# Altium schematic symbol library Rockchip.SchLib: 6 symbols
Pins are listed as number, name and electrical type; pins without a type are passive.

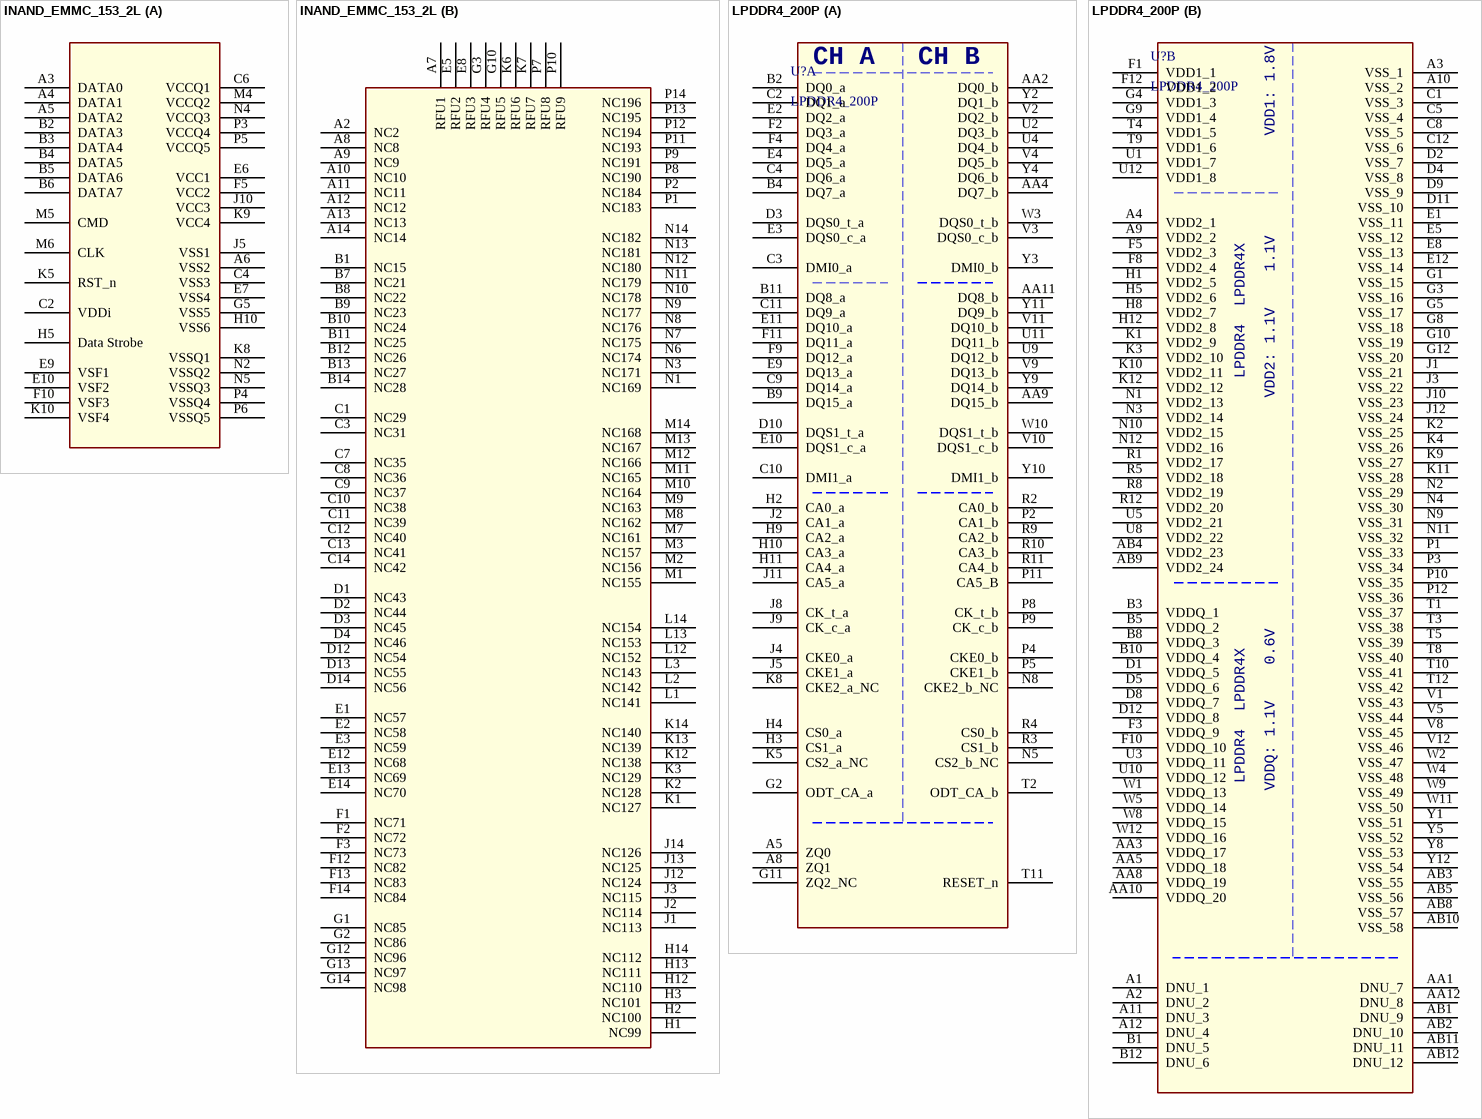
[diagram p0: symbols INAND_EMMC_153_2L to LPDDR4_200P]

## INAND_EMMC_153_2L
designator U?
part A pins: A3 DATA0, A4 DATA1, A5 DATA2, A6 VSS2, B2 DATA3, B3 DATA4, B4 DATA5, B5 DATA6, B6 DATA7, C2 VDDi, C4 VSS3, C6 VCCQ1, E6 VCC1, E7 VSS4, E9 VSF1, E10 VSF2, F5 VCC2, F10 VSF3, G5 VSS5, H5 Data Strobe, H10 VSS6, J5 VSS1, J10 VCC3, K5 RST_n, K8 VSSQ1, K9 VCC4, K10 VSF4, M4 VCCQ2, M5 CMD, M6 CLK, N2 VSSQ2, N4 VCCQ3, N5 VSSQ3, P3 VCCQ4, P4 VSSQ4, P5 VCCQ5, P6 VSSQ5
part B pins: A2 NC2, A7 RFU1, A8 NC8, A9 NC9, A10 NC10, A11 NC11, A12 NC12, A13 NC13, A14 NC14, B1 NC15, B7 NC21, B8 NC22, B9 NC23, B10 NC24, B11 NC25, B12 NC26, B13 NC27, B14 NC28, C1 NC29, C3 NC31, C7 NC35, C8 NC36, C9 NC37, C10 NC38, C11 NC39, C12 NC40, C13 NC41, C14 NC42, D1 NC43, D2 NC44, D3 NC45, D4 NC46, D12 NC54, D13 NC55, D14 NC56, E1 NC57, E2 NC58, E3 NC59, E5 RFU2, E8 RFU3, E12 NC68, E13 NC69, E14 NC70, F1 NC71, F2 NC72, F3 NC73, F12 NC82, F13 NC83, F14 NC84, G1 NC85, G2 NC86, G3 RFU4, G10 RFU5, G12 NC96, G13 NC97, G14 NC98, H1 NC99, H2 NC100, H3 NC101, H12 NC110, H13 NC111, H14 NC112, J1 NC113, J2 NC114, J3 NC115, J12 NC124, J13 NC125, J14 NC126, K1 NC127, K2 NC128, K3 NC129, K6 RFU6, K7 RFU7, K12 NC138, K13 NC139, K14 NC140, L1 NC141, L2 NC142, L3 NC143, L12 NC152, L13 NC153, L14 NC154, M1 NC155, M2 NC156, M3 NC157, M7 NC161, M8 NC162, M9 NC163, M10 NC164, M11 NC165, M12 NC166, M13 NC167, M14 NC168, N1 NC169, N3 NC171, N6 NC174, N7 NC175, N8 NC176, N9 NC177, N10 NC178, N11 NC179, N12 NC180, N13 NC181, N14 NC182, P1 NC183, P2 NC184, P7 RFU8, P8 NC190, P9 NC191, P10 RFU9, P11 NC193, P12 NC194, P13 NC195, P14 NC196

## LPDDR4_200P
designator U?
footprint VFBGA-200_L14.5-W10.0-BL_MT53D1024M32D4DT
part A pins: A5 ZQ0, A8 ZQ1, AA2 DQ0_b, AA4 DQ7_b, AA9 DQ15_b, AA11 DQ8_b, B2 DQ0_a, B4 DQ7_a, B9 DQ15_a, B11 DQ8_a, C2 DQ1_a, C3 DMI0_a, C4 DQ6_a, C9 DQ14_a, C10 DMI1_a, C11 DQ9_a, D3 DQS0_t_a, D10 DQS1_t_a, E2 DQ2_a, E3 DQS0_c_a, E4 DQ5_a, E9 DQ13_a, E10 DQS1_c_a, E11 DQ10_a, F2 DQ3_a, F4 DQ4_a, F9 DQ12_a, F11 DQ11_a, G2 ODT_CA_a, G11 ZQ2_NC, H2 CA0_a, H3 CS1_a, H4 CS0_a, H9 CA2_a, H10 CA3_a, H11 CA4_a, J2 CA1_a, J4 CKE0_a, J5 CKE1_a, J8 CK_t_a, J9 CK_c_a, J11 CA5_a, K5 CS2_a_NC, K8 CKE2_a_NC, N5 CS2_b_NC, N8 CKE2_b_NC, P2 CA1_b, P4 CKE0_b, P5 CKE1_b, P8 CK_t_b, P9 CK_c_b, P11 CA5_B, R2 CA0_b, R3 CS1_b, R4 CS0_b, R9 CA2_b, R10 CA3_b, R11 CA4_b, T2 ODT_CA_b, T11 RESET_n, U2 DQ3_b, U4 DQ4_b, U9 DQ12_b, U11 DQ11_b, V2 DQ2_b, V3 DQS0_c_b, V4 DQ5_b, V9 DQ13_b, V10 DQS1_c_b, V11 DQ10_b, W3 DQS0_t_b, W10 DQS1_t_b, Y2 DQ1_b, Y3 DMI0_b, Y4 DQ6_b, Y9 DQ14_b, Y10 DMI1_b, Y11 DQ9_b
part B pins: A1 DNU_1, A2 DNU_2, A3 VSS_1 (power), A4 VDD2_1 (power), A9 VDD2_2 (power), A10 VSS_2 (power), A11 DNU_3, A12 DNU_4, AA1 DNU_7, AA3 VDDQ_17 (power), AA5 VDDQ_18 (power), AA8 VDDQ_19 (power), AA10 VDDQ_20 (power), AA12 DNU_8, AB1 DNU_9, AB2 DNU_10, AB3 VSS_55 (power), AB4 VDD2_23 (power), AB5 VSS_56 (power), AB8 VSS_57 (power), AB9 VDD2_24 (power), AB10 VSS_58 (power), AB11 DNU_11, AB12 DNU_12, B1 DNU_5, B3 VDDQ_1 (power), B5 VDDQ_2 (power), B8 VDDQ_3 (power), B10 VDDQ_4 (power), B12 DNU_6, C1 VSS_3 (power), C5 VSS_4 (power), C8 VSS_5 (power), C12 VSS_6 (power), D1 VDDQ_5 (power), D2 VSS_7 (power), D4 VSS_8 (power), D5 VDDQ_6 (power), D8 VDDQ_7 (power), D9 VSS_9 (power), D11 VSS_10 (power), D12 VDDQ_8 (power), E1 VSS_11 (power), E5 VSS_12 (power), E8 VSS_13 (power), E12 VSS_14 (power), F1 VDD1_1 (power), F3 VDDQ_9 (power), F5 VDD2_3 (power), F8 VDD2_4 (power), F10 VDDQ_10 (power), F12 VDD1_2 (power), G1 VSS_15 (power), G3 VSS_16 (power), G4 VDD1_3 (power), G5 VSS_17 (power), G8 VSS_18 (power), G9 VDD1_4 (power), G10 VSS_19 (power), G12 VSS_20 (power), H1 VDD2_5 (power), H5 VDD2_6 (power), H8 VDD2_7 (power), H12 VDD2_8 (power), J1 VSS_21 (power), J3 VSS_22 (power), J10 VSS_23 (power), J12 VSS_24 (power), K1 VDD2_9 (power), K2 VSS_25 (power), K3 VDD2_10 (power), K4 VSS_26 (power), K9 VSS_27 (power), K10 VDD2_11 (power), K11 VSS_28 (power), K12 VDD2_12 (power), N1 VDD2_13 (power), N2 VSS_29 (power), N3 VDD2_14 (power), N4 VSS_30 (power), N9 VSS_31 (power), N10 VDD2_15 (power), N11 VSS_32 (power), N12 VDD2_16 (power), P1 VSS_33 (power), P3 VSS_34 (power), P10 VSS_35 (power), P12 VSS_36 (power), R1 VDD2_17 (power), R5 VDD2_18 (power), R8 VDD2_19 (power), R12 VDD2_20 (power), T1 VSS_37 (power), T3 VSS_38 (power), T4 VDD1_5 (power), T5 VSS_39 (power), T8 VSS_40 (power), T9 VDD1_6 (power), T10 VSS_41 (power), T12 VSS_42 (power), U1 VDD1_7 (power), U3 VDDQ_11 (power), U5 VDD2_21 (power), U8 VDD2_22 (power), U10 VDDQ_12 (power), U12 VDD1_8 (power), V1 VSS_43 (power), V5 VSS_44 (power), V8 VSS_45 (power), V12 VSS_46 (power), W1 VDDQ_13 (power), W2 VSS_47 (power), W4 VSS_48 (power), W5 VDDQ_14 (power), W8 VDDQ_15 (power), W9 VSS_49 (power), W11 VSS_50 (power), W12 VDDQ_16 (power), Y1 VSS_51 (power), Y5 VSS_52 (power), Y8 VSS_53 (power), Y12 VSS_54 (power)
part A text: CH A; CH B
part B text: VDD1: 1.8V; LPDDR4  LPDDR4X; VDD2: 1.1V    1.1V; VDDQ: 1.1V    0.6V

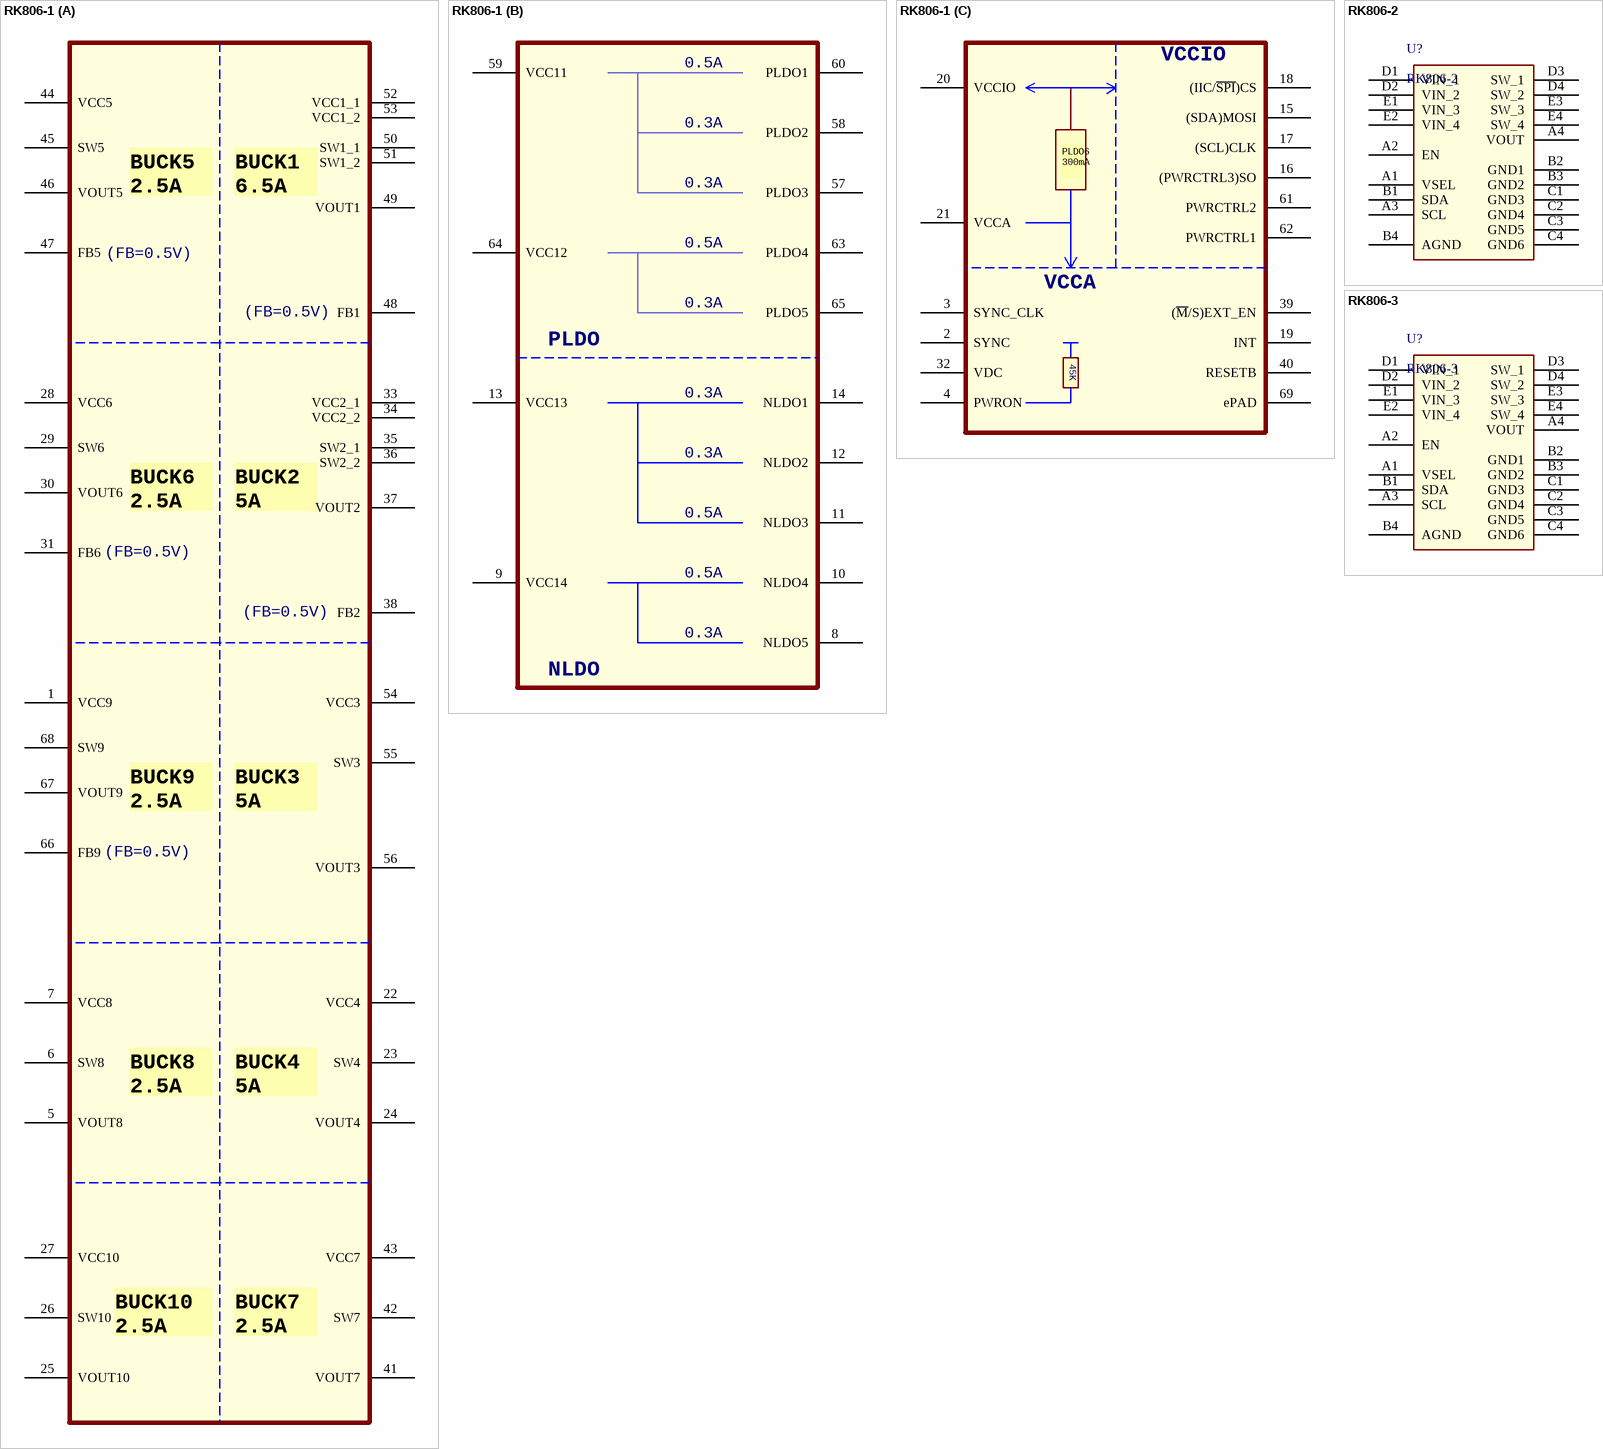
[diagram p1: symbols RK806-1 to RK806-3]

## RK806-1
designator U?  (value not drawn)
footprint QFN-68-1EP_7x7mm_P0.35mm_EP5.5x5.5mm (QFN, 68-Leads, Body 7.00x7.00mm, Pitch 0.35mm, Thermal Pad 5.5x5.5mm IPC Medium Density)
part A pins: 1 VCC9, 5 VOUT8, 6 SW8, 7 VCC8, 22 VCC4, 23 SW4, 24 VOUT4, 25 VOUT10, 26 SW10, 27 VCC10, 28 VCC6, 29 SW6, 30 VOUT6, 31 FB6, 33 VCC2_1, 34 VCC2_2, 35 SW2_1, 36 SW2_2, 37 VOUT2, 38 FB2, 41 VOUT7, 42 SW7, 43 VCC7, 44 VCC5, 45 SW5, 46 VOUT5, 47 FB5, 48 FB1, 49 VOUT1, 50 SW1_1, 51 SW1_2, 52 VCC1_1, 53 VCC1_2, 54 VCC3, 55 SW3, 56 VOUT3, 66 FB9, 67 VOUT9, 68 SW9
part B pins: 8 NLDO5, 9 VCC14, 10 NLDO4, 11 NLDO3, 12 NLDO2, 13 VCC13, 14 NLDO1, 57 PLDO3, 58 PLDO2, 59 VCC11, 60 PLDO1, 63 PLDO4, 64 VCC12, 65 PLDO5
part C pins: 2 SYNC, 3 SYNC_CLK, 4 PWRON, 15 (SDA)MOSI, 16 (PWRCTRL3)SO, 17 (SCL)CLK, 18 (IIC/~{SPI})CS, 19 INT, 20 VCCIO, 21 VCCA, 32 VDC, 39 (~{M}/S)EXT_EN, 40 RESETB, 61 PWRCTRL2, 62 PWRCTRL1, 69 ePAD
part A text: BUCK5 / 2.5A; BUCK1 / 6.5A; (FB=0.5V); BUCK6 / 2.5A; BUCK2 / 5A; BUCK9 / 2.5A; BUCK3 / 5A; BUCK8 / 2.5A; BUCK4 / 5A; BUCK10 / 2.5A; BUCK7 / 2.5A
part B text: 0.5A; 0.3A; PLDO; NLDO
part C text: PLDO6 / 300mA; 45K

## RK806-2
designator U?
footprint WLCSP-20_L2.0-W1.6-R5-C4-P0.40-TL
pins: A1 VSEL, A2 EN, A3 SCL, A4 VOUT, B1 SDA, B2 GND1, B3 GND2, B4 AGND, C1 GND3, C2 GND4, C3 GND5, C4 GND6, D1 VIN_1, D2 VIN_2, D3 SW_1, D4 SW_2, E1 VIN_3, E2 VIN_4, E3 SW_3, E4 SW_4

## RK806-3
designator U?
footprint WLCSP-20_L2.0-W1.6-R5-C4-P0.40-TL
pins: A1 VSEL, A2 EN, A3 SCL, A4 VOUT, B1 SDA, B2 GND1, B3 GND2, B4 AGND, C1 GND3, C2 GND4, C3 GND5, C4 GND6, D1 VIN_1, D2 VIN_2, D3 SW_1, D4 SW_2, E1 VIN_3, E2 VIN_4, E3 SW_3, E4 SW_4

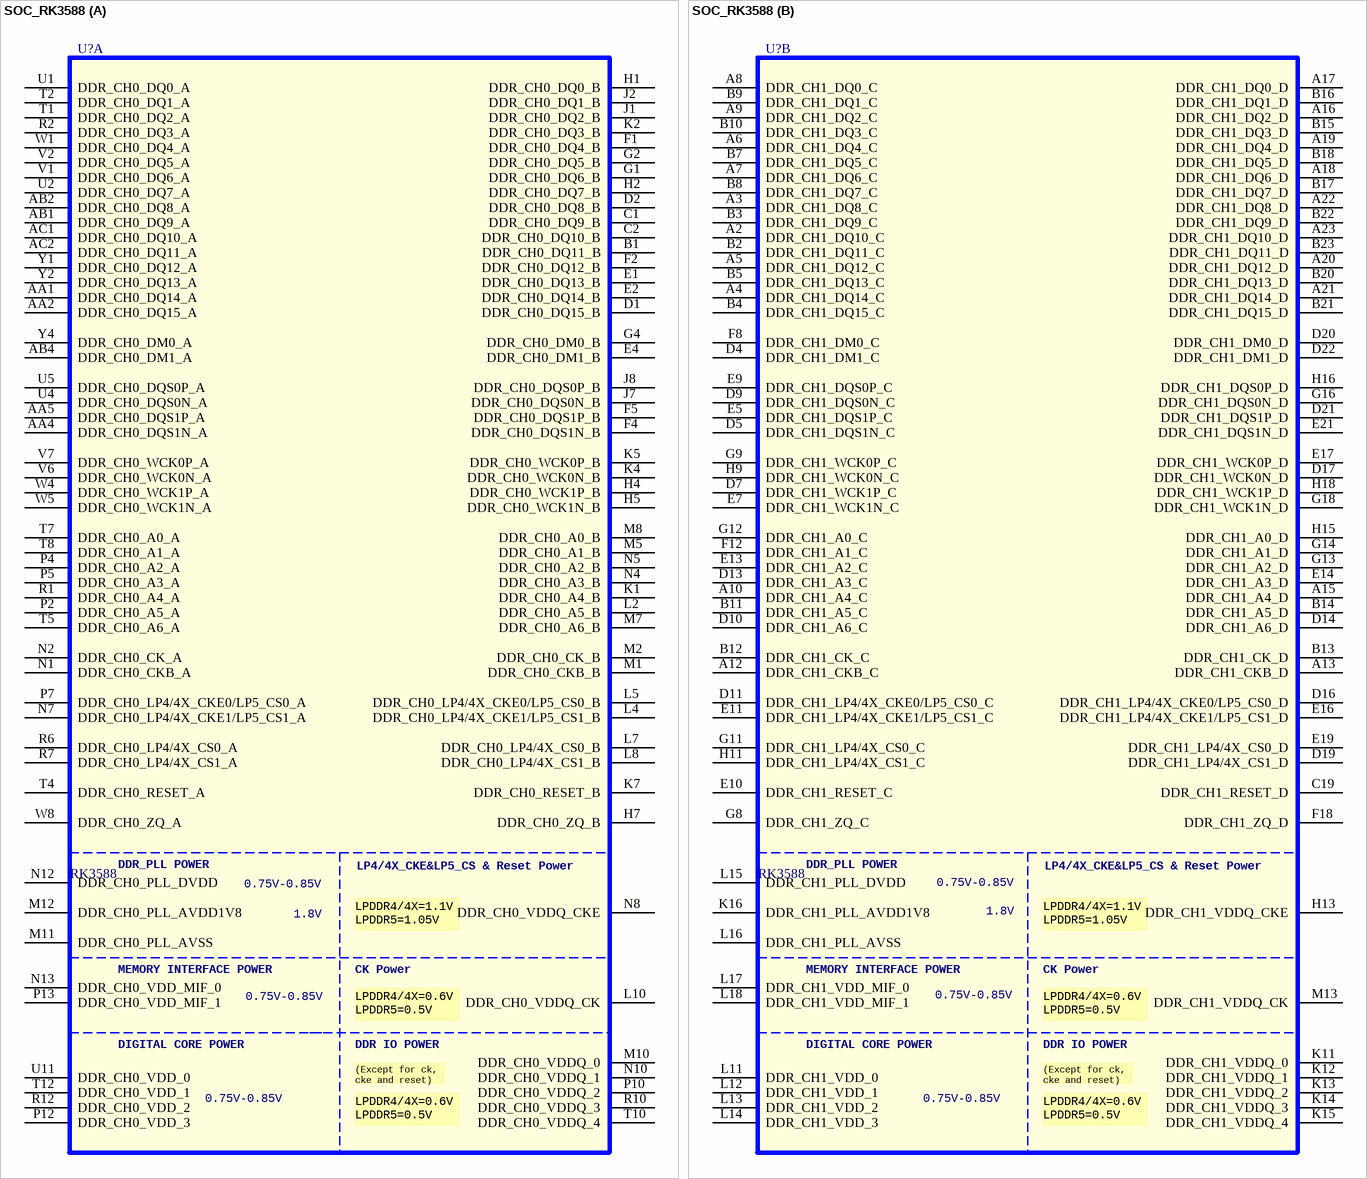
[diagram p2: symbol SOC_RK3588]

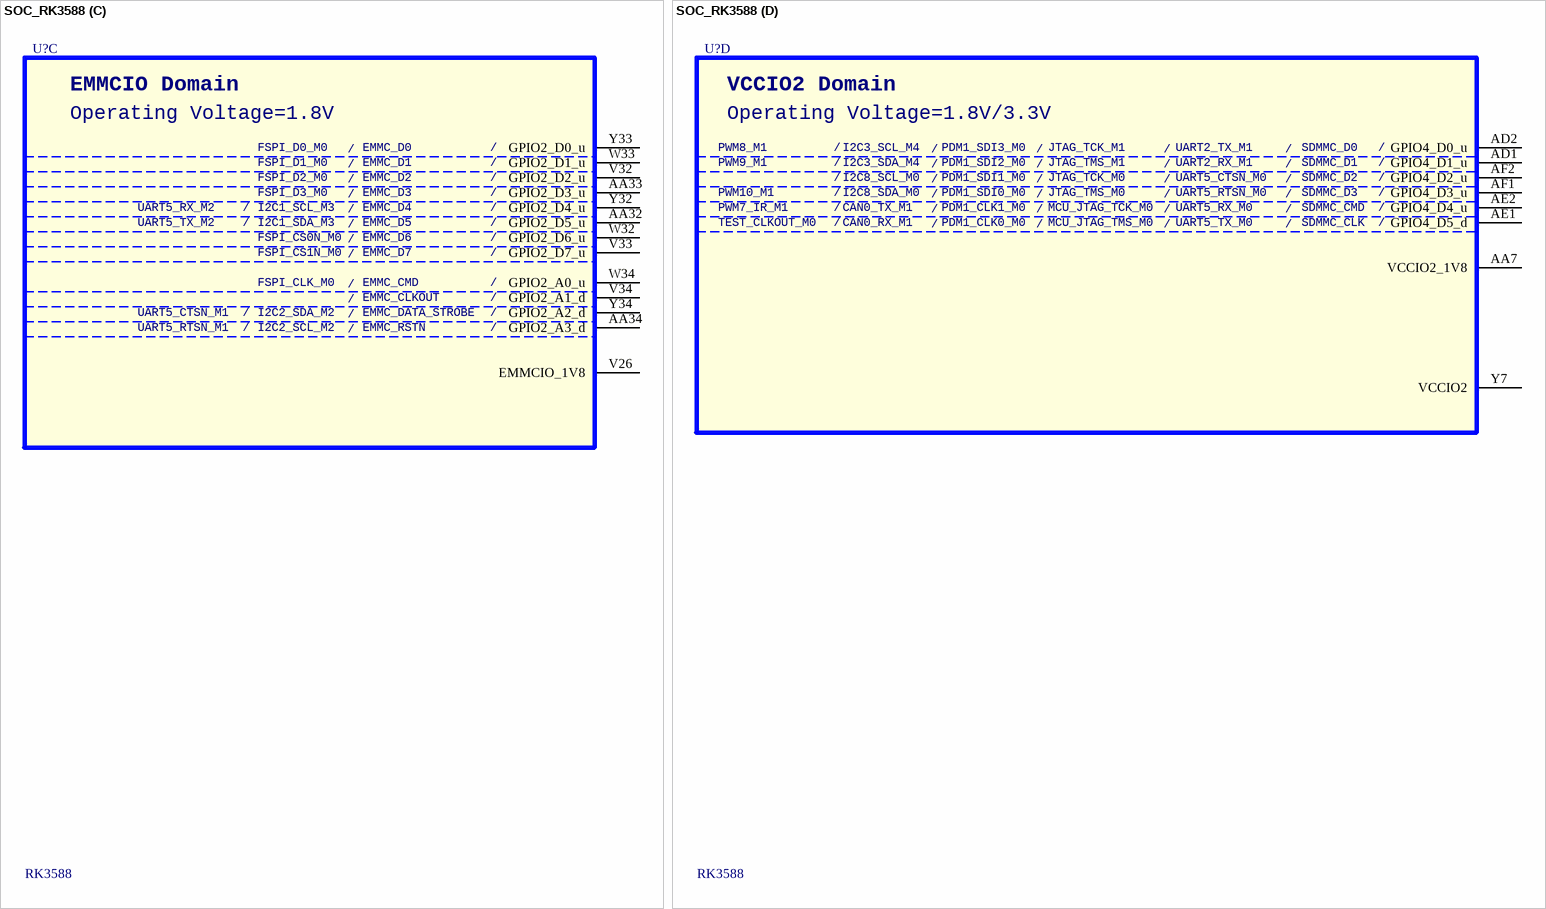
[diagram p3: symbol SOC_RK3588]

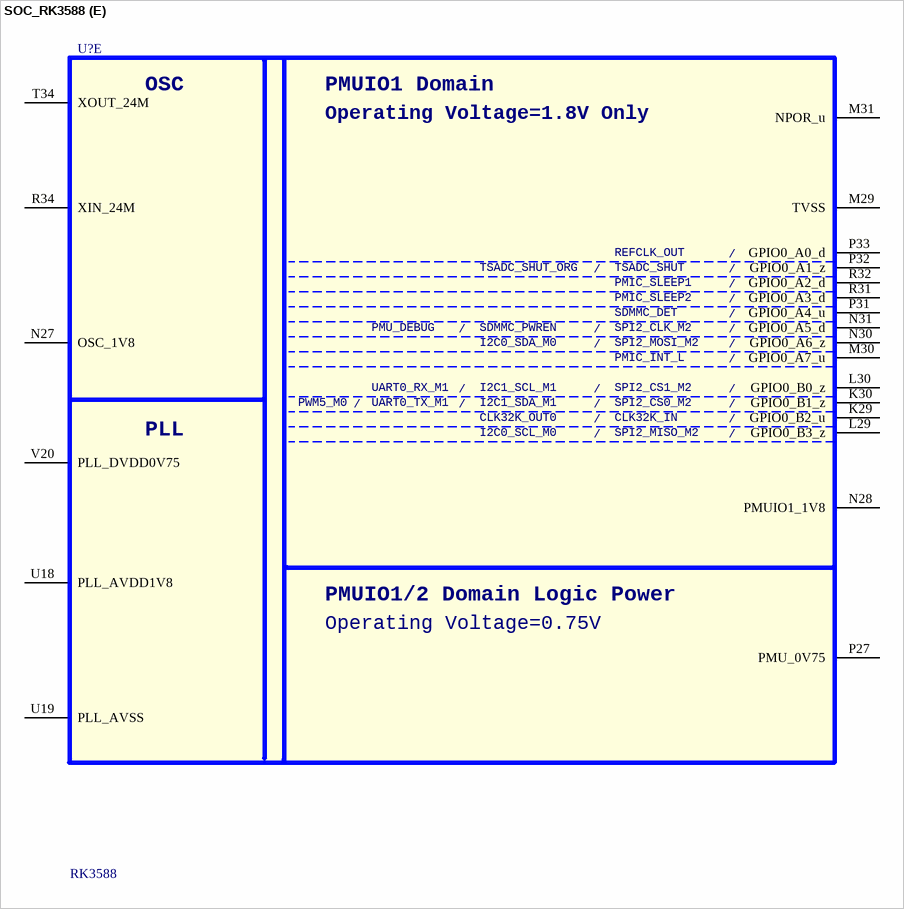
[diagram p4: symbol SOC_RK3588]

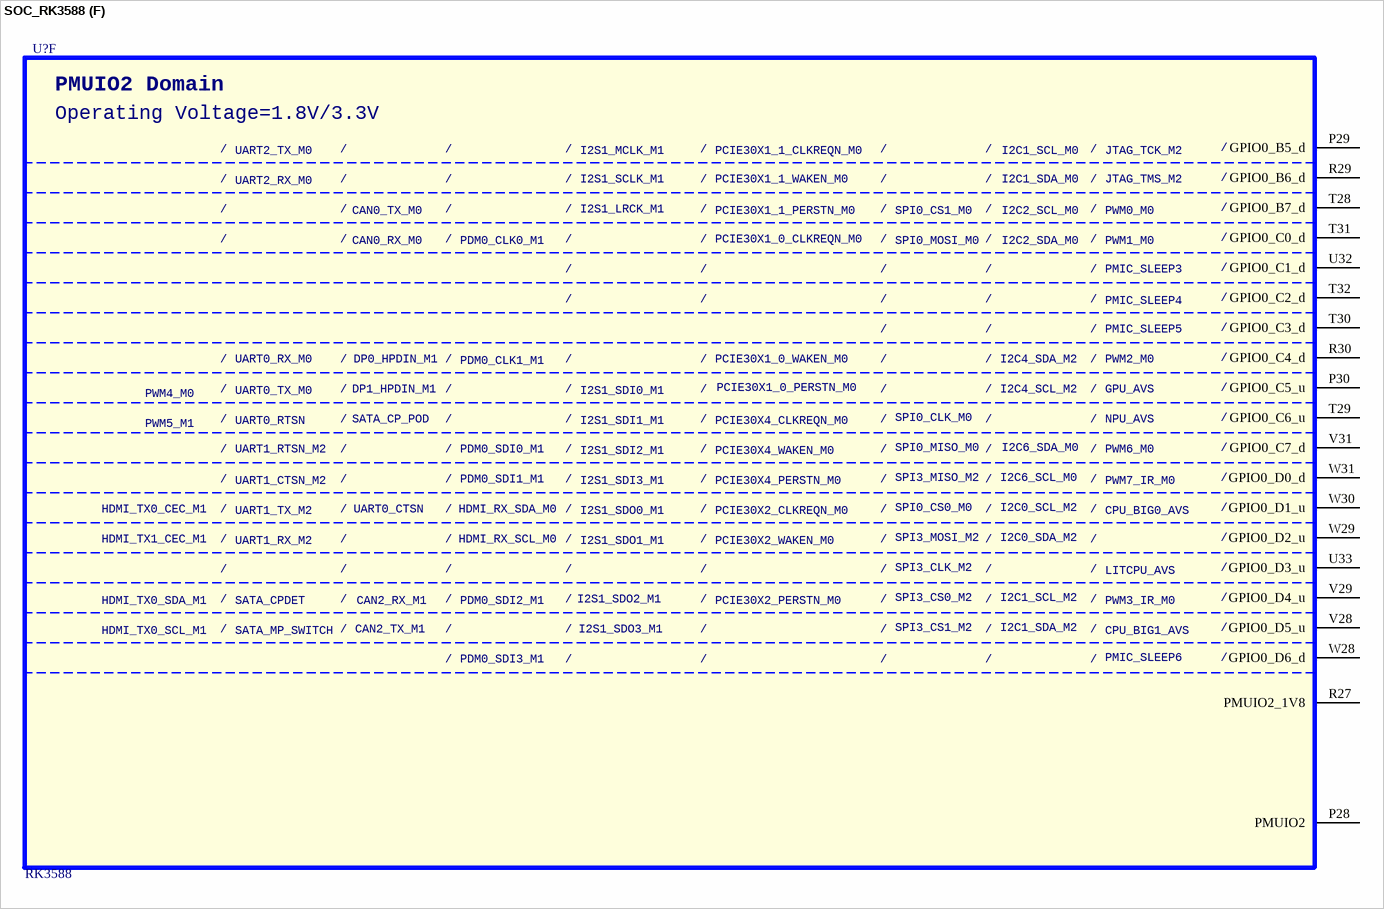
[diagram p5: symbol SOC_RK3588]

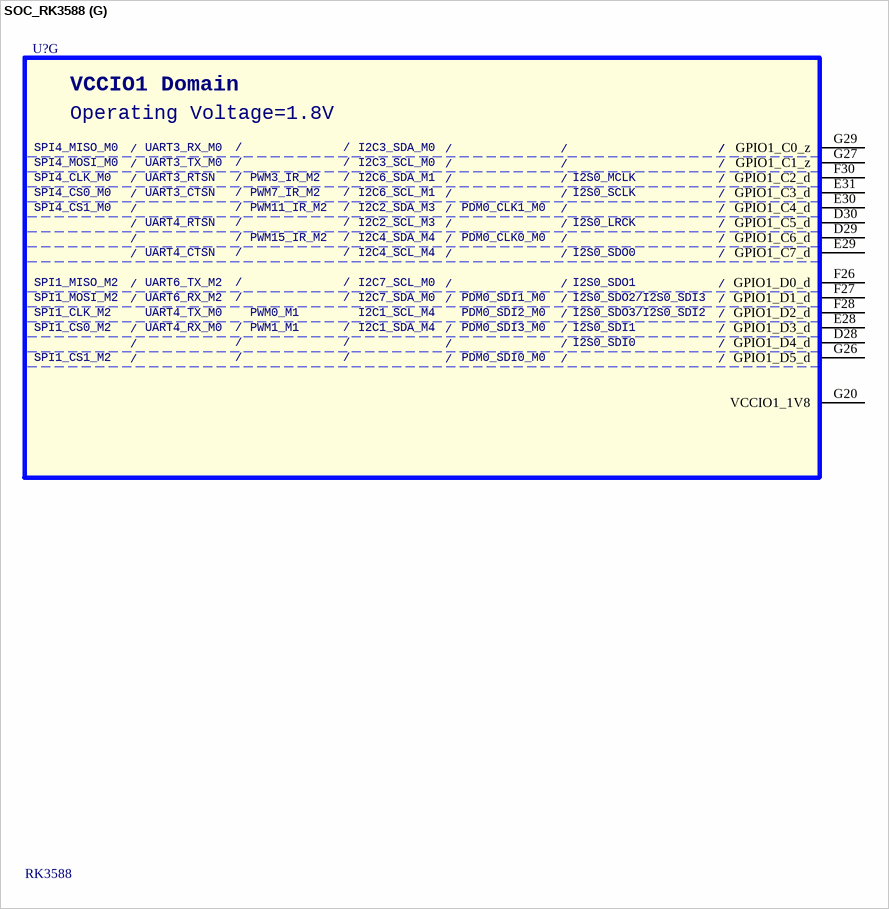
[diagram p6: symbol SOC_RK3588]

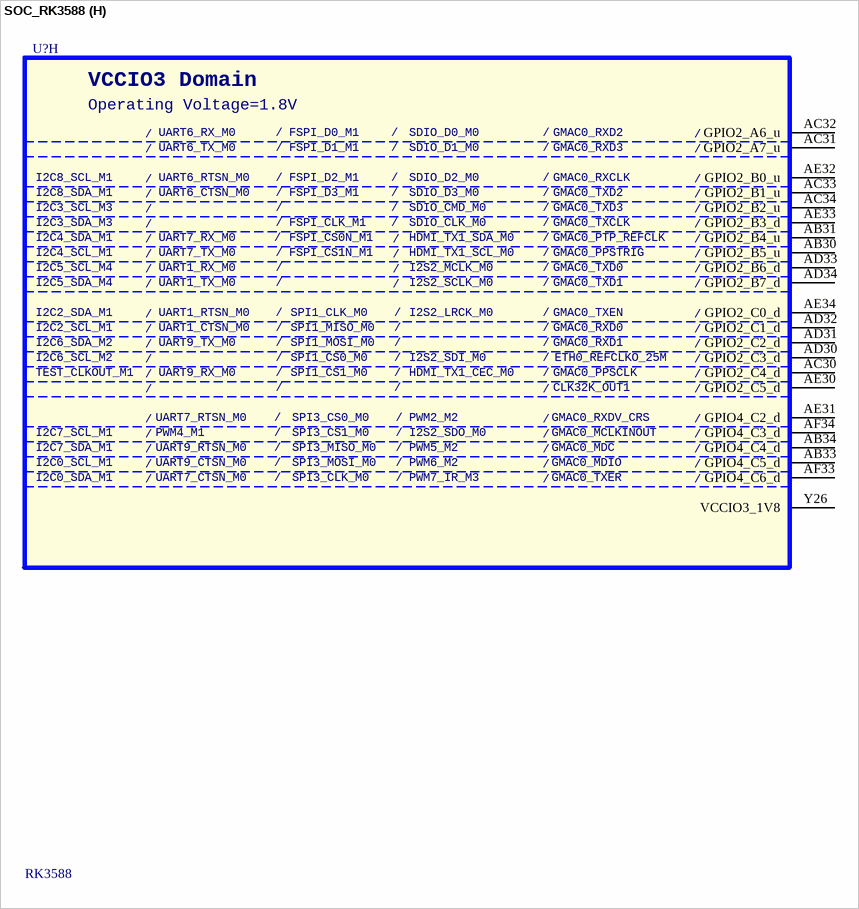
[diagram p7: symbol SOC_RK3588]

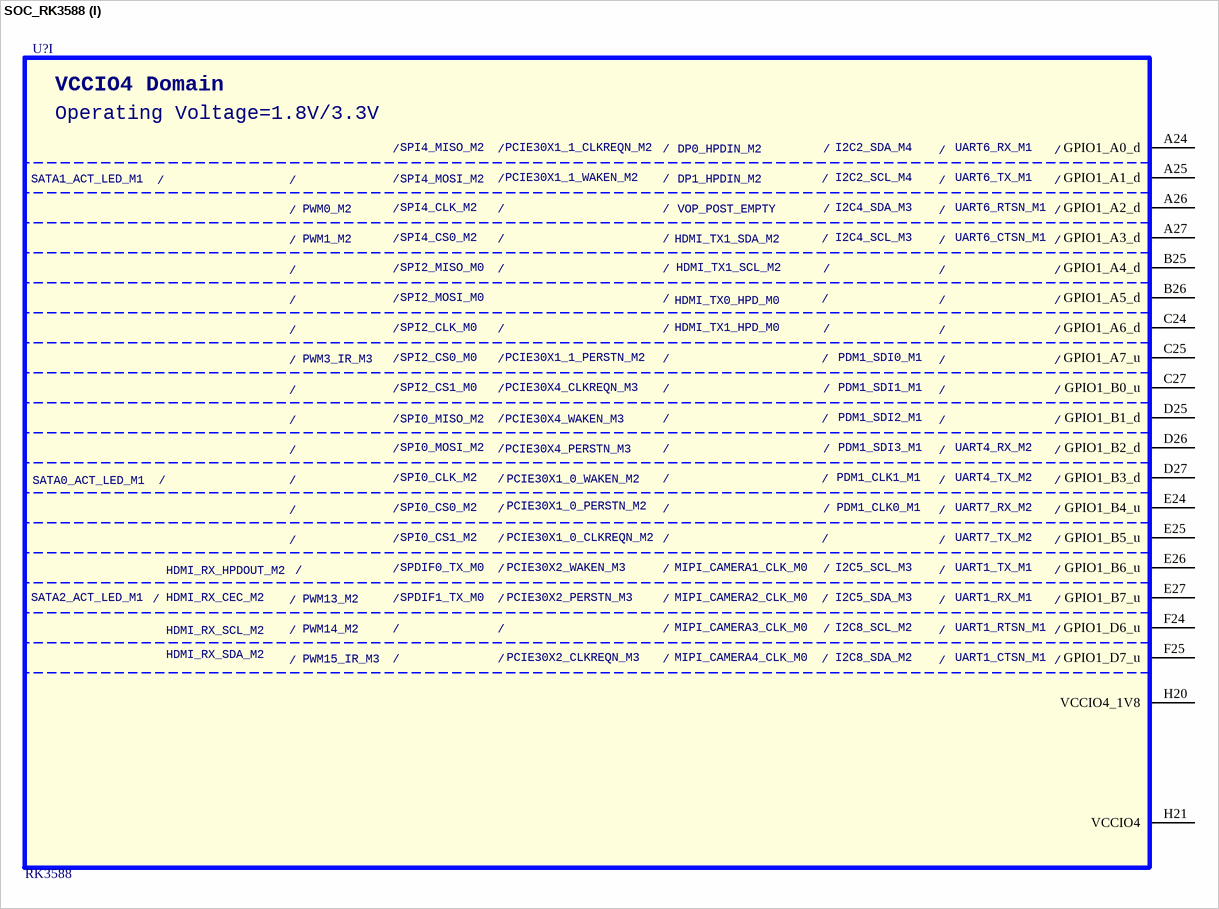
[diagram p8: symbol SOC_RK3588]

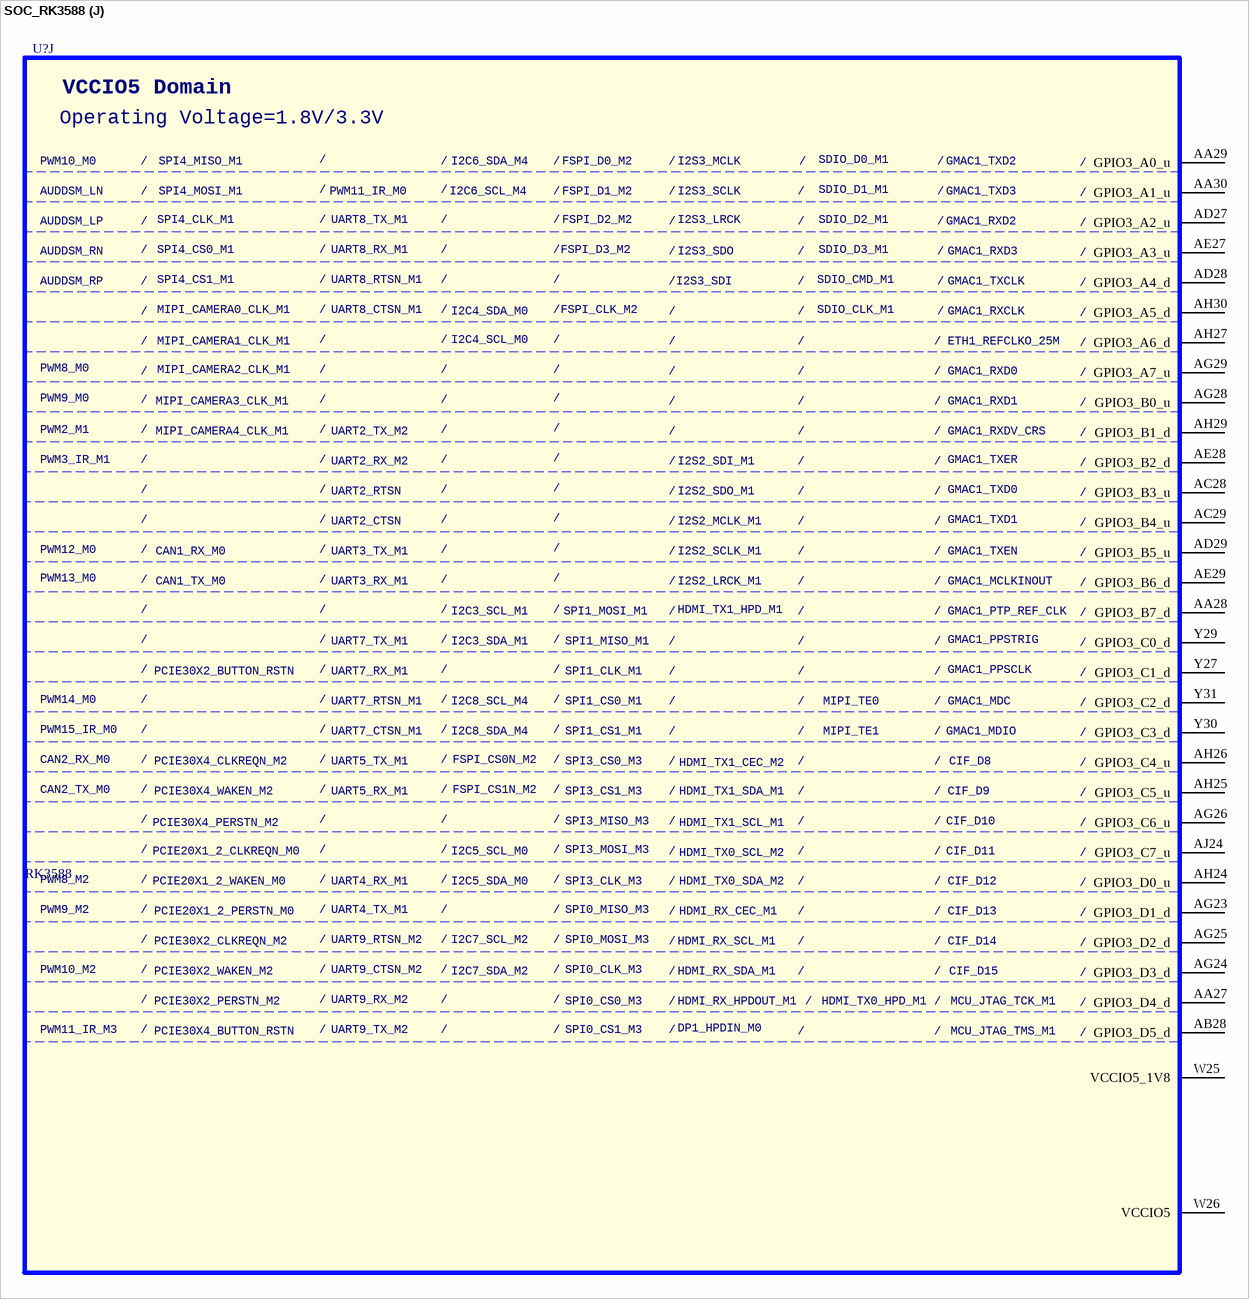
[diagram p9: symbol SOC_RK3588]

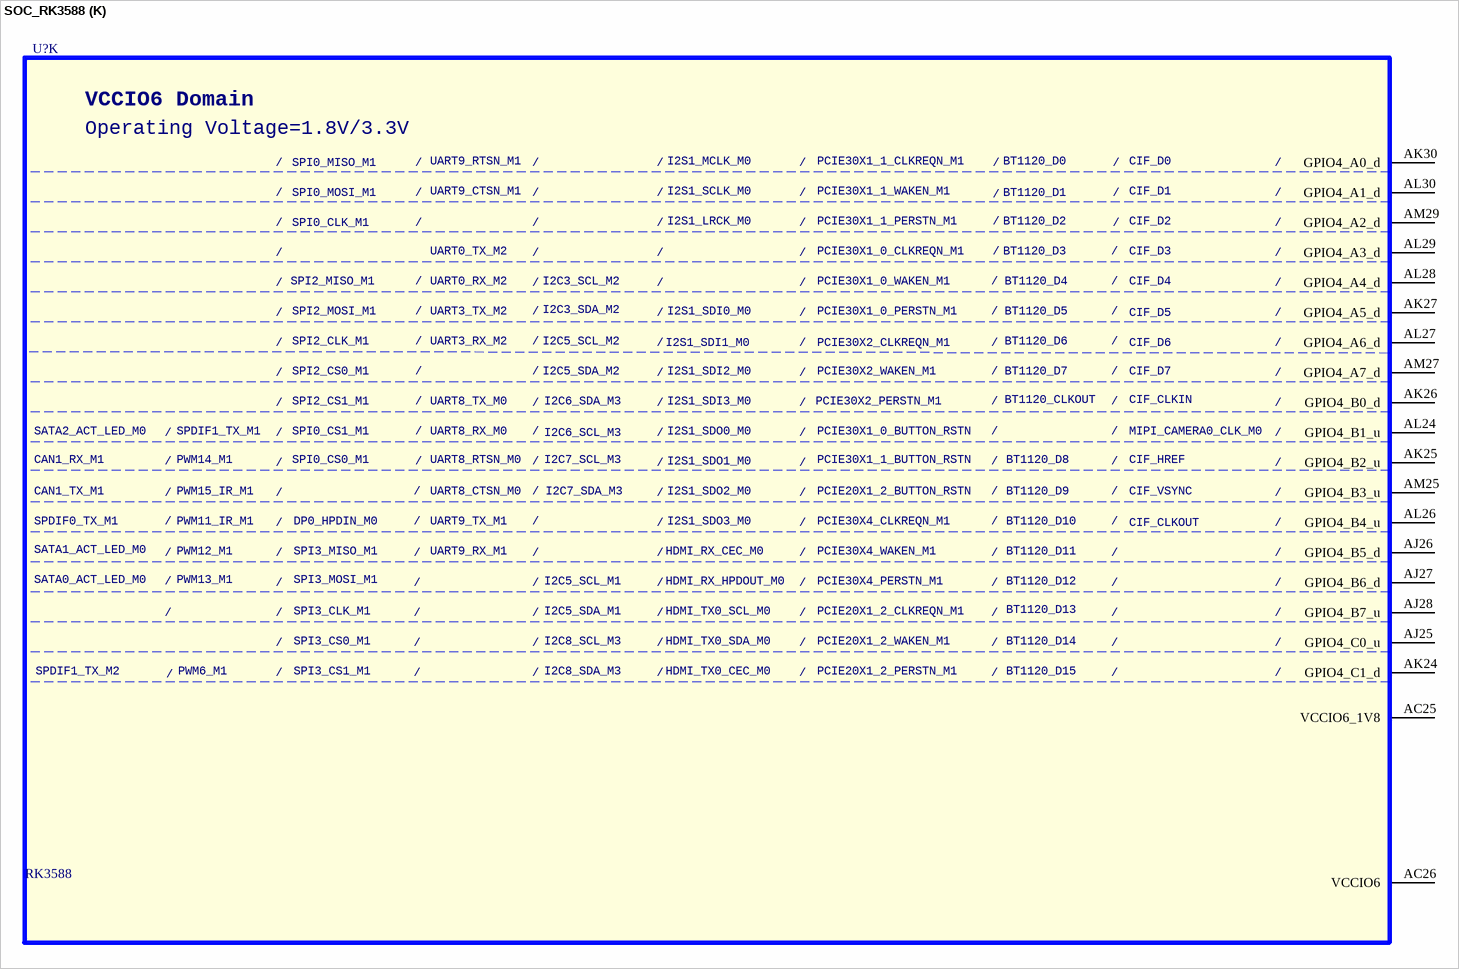
[diagram p10: symbol SOC_RK3588]

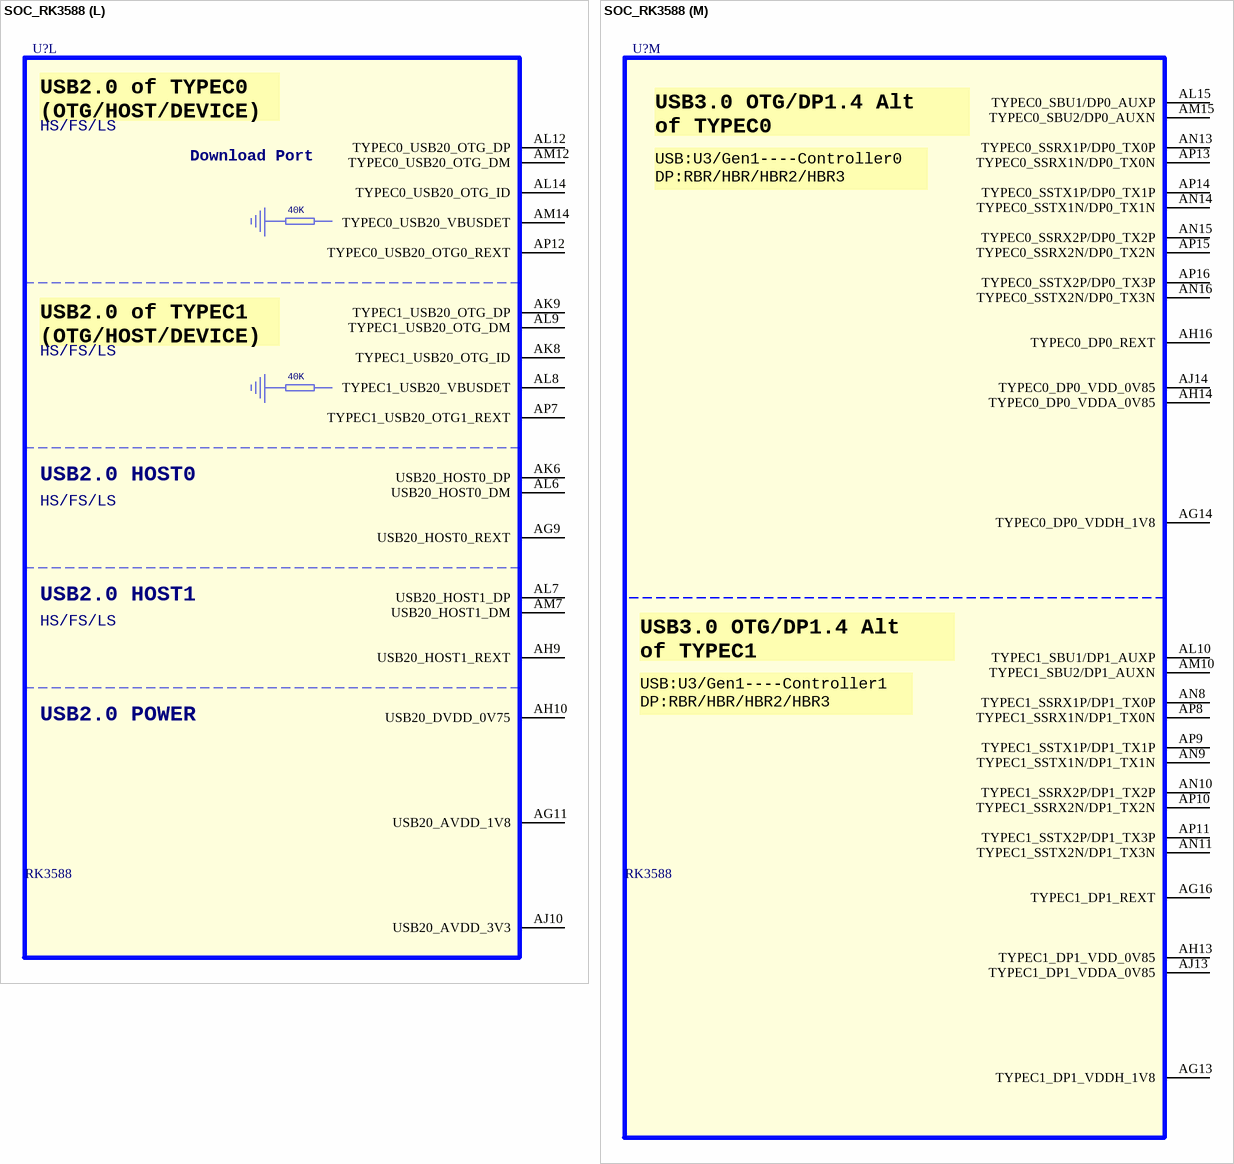
[diagram p11: symbol SOC_RK3588]

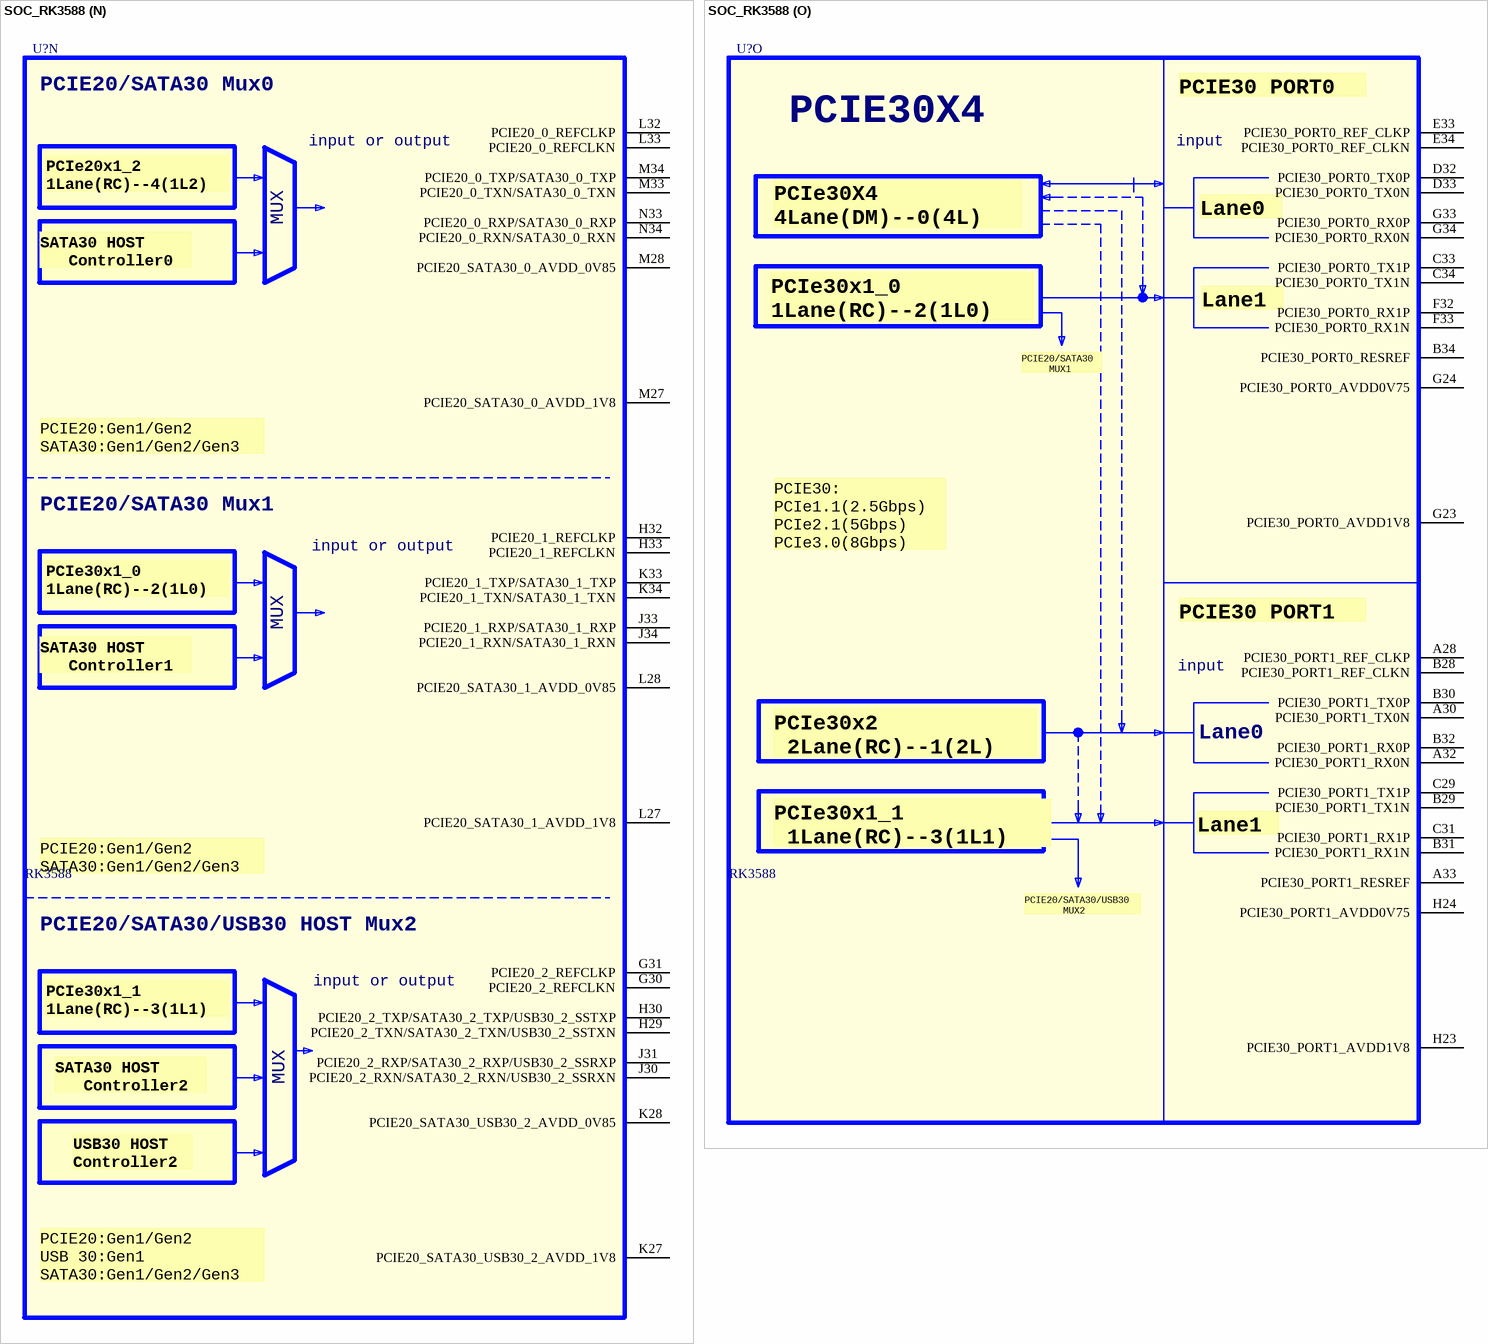
[diagram p12: symbol SOC_RK3588]

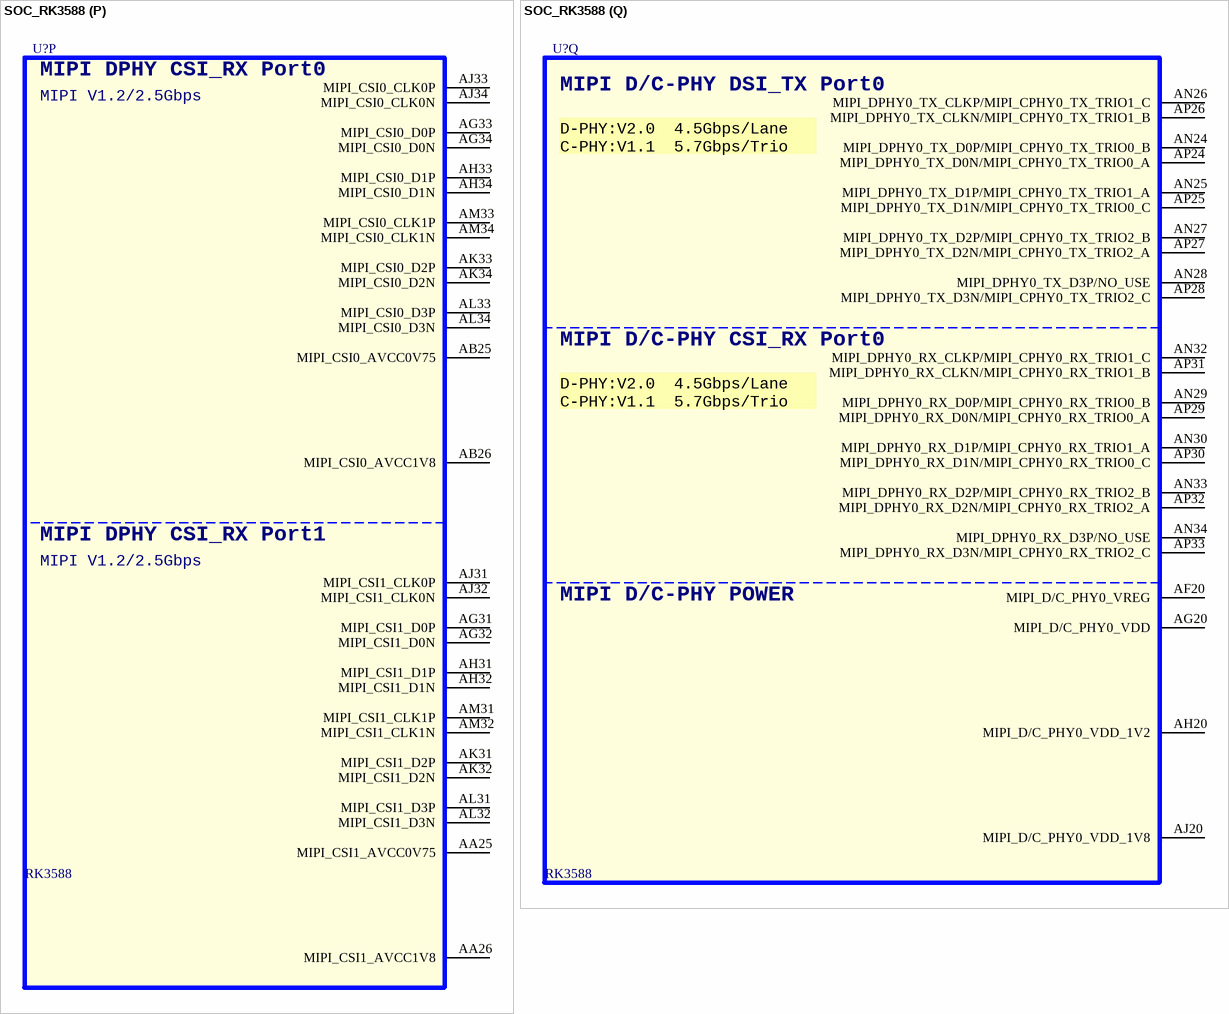
[diagram p13: symbol SOC_RK3588]

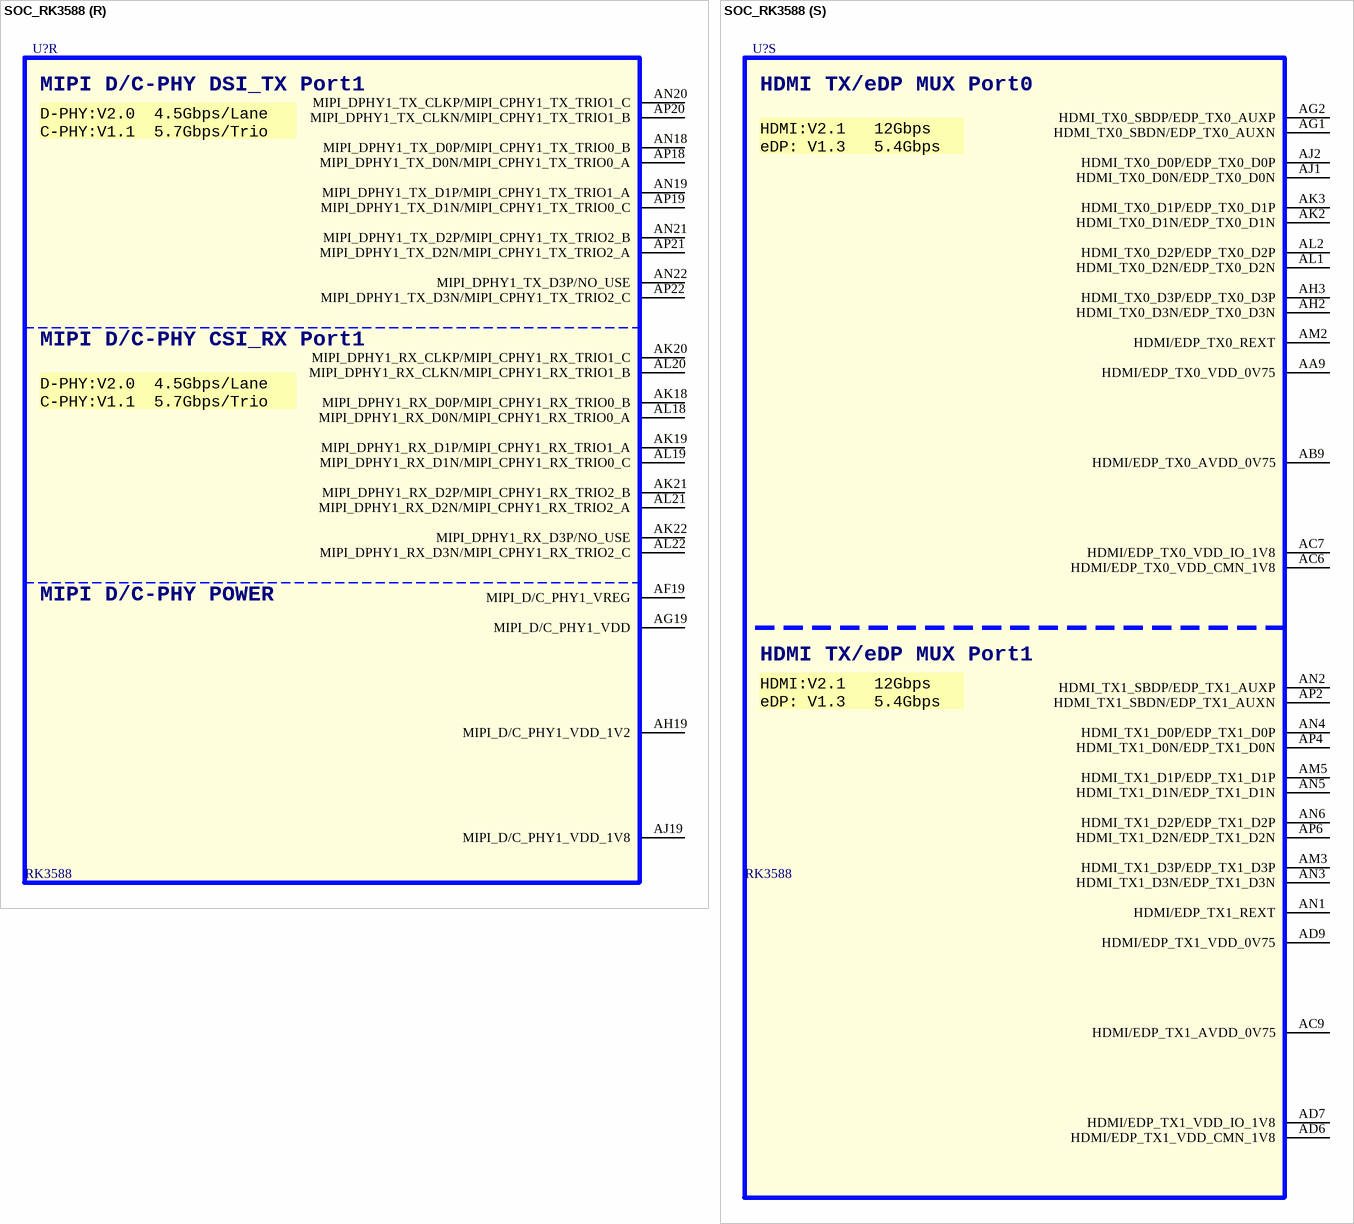
[diagram p14: symbol SOC_RK3588]

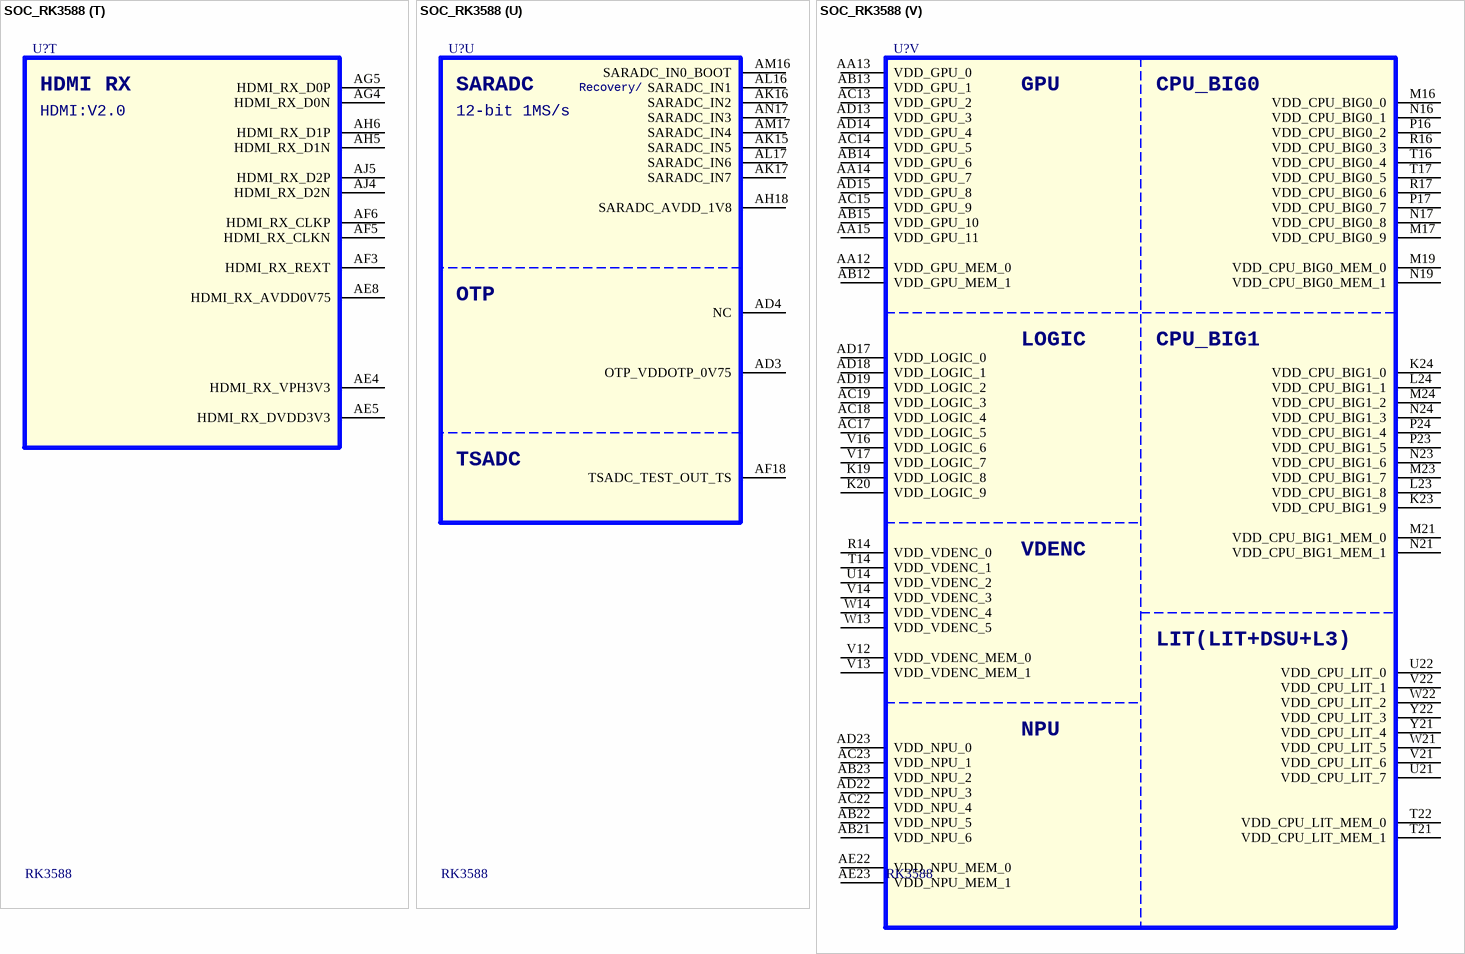
[diagram p15: symbol SOC_RK3588]

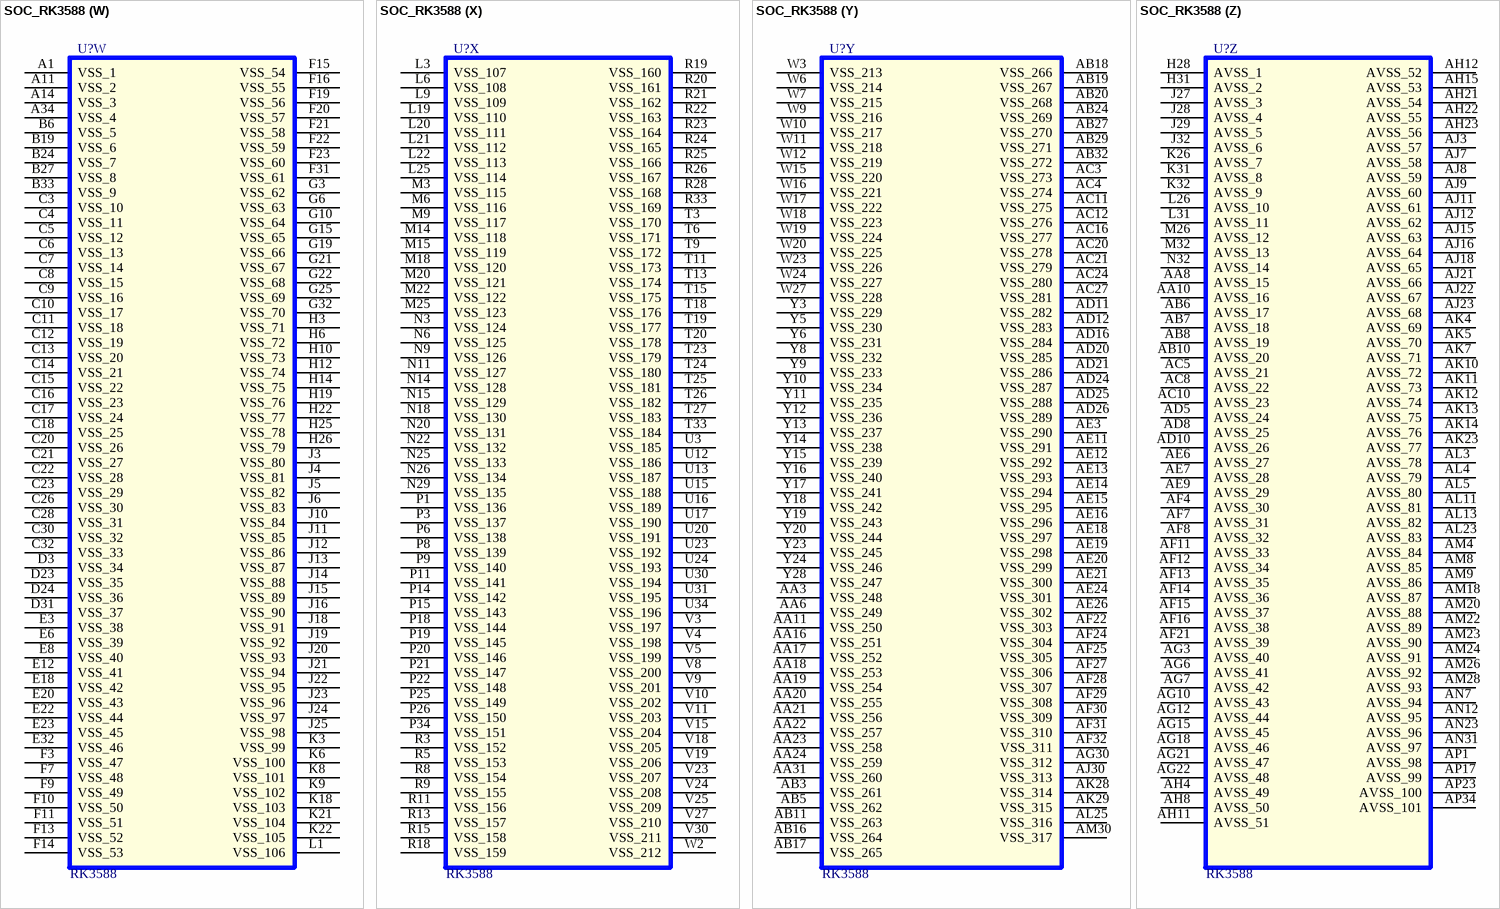
[diagram p16: symbol SOC_RK3588]

## SOC_RK3588
designator U?, comment RK3588
ROCKCHIP SOC
footprint FCBGA-1088_L23.0-W23.0-P0.65-TL_RK3588
part A pins: AA1 DDR_CH0_DQ14_A, AA2 DDR_CH0_DQ15_A, AA4 DDR_CH0_DQS1N_A, AA5 DDR_CH0_DQS1P_A, AB1 DDR_CH0_DQ9_A, AB2 DDR_CH0_DQ8_A, AB4 DDR_CH0_DM1_A, AC1 DDR_CH0_DQ10_A, AC2 DDR_CH0_DQ11_A, B1 DDR_CH0_DQ11_B, C1 DDR_CH0_DQ9_B, C2 DDR_CH0_DQ10_B, D1 DDR_CH0_DQ15_B, D2 DDR_CH0_DQ8_B, E1 DDR_CH0_DQ13_B, E2 DDR_CH0_DQ14_B, E4 DDR_CH0_DM1_B, F1 DDR_CH0_DQ4_B, F2 DDR_CH0_DQ12_B, F4 DDR_CH0_DQS1N_B, F5 DDR_CH0_DQS1P_B, G1 DDR_CH0_DQ6_B, G2 DDR_CH0_DQ5_B, G4 DDR_CH0_DM0_B, H1 DDR_CH0_DQ0_B, H2 DDR_CH0_DQ7_B, H4 DDR_CH0_WCK1P_B, H5 DDR_CH0_WCK1N_B, H7 DDR_CH0_ZQ_B, J1 DDR_CH0_DQ2_B, J2 DDR_CH0_DQ1_B, J7 DDR_CH0_DQS0N_B, J8 DDR_CH0_DQS0P_B, K1 DDR_CH0_A4_B, K2 DDR_CH0_DQ3_B, K4 DDR_CH0_WCK0N_B, K5 DDR_CH0_WCK0P_B, K7 DDR_CH0_RESET_B, L2 DDR_CH0_A5_B, L4 DDR_CH0_LP4/4X_CKE1/LP5_CS1_B, L5 DDR_CH0_LP4/4X_CKE0/LP5_CS0_B, L7 DDR_CH0_LP4/4X_CS0_B, L8 DDR_CH0_LP4/4X_CS1_B, L10 DDR_CH0_VDDQ_CK (power), M1 DDR_CH0_CKB_B, M2 DDR_CH0_CK_B, M5 DDR_CH0_A1_B, M7 DDR_CH0_A6_B, M8 DDR_CH0_A0_B, M10 DDR_CH0_VDDQ_0 (power), M11 DDR_CH0_PLL_AVSS (power), M12 DDR_CH0_PLL_AVDD1V8 (power), N1 DDR_CH0_CKB_A, N2 DDR_CH0_CK_A, N4 DDR_CH0_A3_B, N5 DDR_CH0_A2_B, N7 DDR_CH0_LP4/4X_CKE1/LP5_CS1_A, N8 DDR_CH0_VDDQ_CKE (power), N10 DDR_CH0_VDDQ_1 (power), N12 DDR_CH0_PLL_DVDD (power), N13 DDR_CH0_VDD_MIF_0 (power), P2 DDR_CH0_A5_A, P4 DDR_CH0_A2_A, P5 DDR_CH0_A3_A, P7 DDR_CH0_LP4/4X_CKE0/LP5_CS0_A, P10 DDR_CH0_VDDQ_2 (power), P12 DDR_CH0_VDD_3 (power), P13 DDR_CH0_VDD_MIF_1 (power), R1 DDR_CH0_A4_A, R2 DDR_CH0_DQ3_A, R6 DDR_CH0_LP4/4X_CS0_A, R7 DDR_CH0_LP4/4X_CS1_A, R10 DDR_CH0_VDDQ_3 (power), R12 DDR_CH0_VDD_2 (power), T1 DDR_CH0_DQ2_A, T2 DDR_CH0_DQ1_A, T4 DDR_CH0_RESET_A, T5 DDR_CH0_A6_A, T7 DDR_CH0_A0_A, T8 DDR_CH0_A1_A, T10 DDR_CH0_VDDQ_4 (power), T12 DDR_CH0_VDD_1 (power), U1 DDR_CH0_DQ0_A, U2 DDR_CH0_DQ7_A, U4 DDR_CH0_DQS0N_A, U5 DDR_CH0_DQS0P_A, U11 DDR_CH0_VDD_0 (power), V1 DDR_CH0_DQ6_A, V2 DDR_CH0_DQ5_A, V6 DDR_CH0_WCK0N_A, V7 DDR_CH0_WCK0P_A, W1 DDR_CH0_DQ4_A, W4 DDR_CH0_WCK1P_A, W5 DDR_CH0_WCK1N_A, W8 DDR_CH0_ZQ_A, Y1 DDR_CH0_DQ12_A, Y2 DDR_CH0_DQ13_A, Y4 DDR_CH0_DM0_A
part B pins: A2 DDR_CH1_DQ10_C, A3 DDR_CH1_DQ8_C, A4 DDR_CH1_DQ14_C, A5 DDR_CH1_DQ12_C, A6 DDR_CH1_DQ4_C, A7 DDR_CH1_DQ6_C, A8 DDR_CH1_DQ0_C, A9 DDR_CH1_DQ2_C, A10 DDR_CH1_A4_C, A12 DDR_CH1_CKB_C, A13 DDR_CH1_CKB_D, A15 DDR_CH1_A4_D, A16 DDR_CH1_DQ2_D, A17 DDR_CH1_DQ0_D, A18 DDR_CH1_DQ6_D, A19 DDR_CH1_DQ4_D, A20 DDR_CH1_DQ12_D, A21 DDR_CH1_DQ14_D, A22 DDR_CH1_DQ8_D, A23 DDR_CH1_DQ10_D, B2 DDR_CH1_DQ11_C, B3 DDR_CH1_DQ9_C, B4 DDR_CH1_DQ15_C, B5 DDR_CH1_DQ13_C, B7 DDR_CH1_DQ5_C, B8 DDR_CH1_DQ7_C, B9 DDR_CH1_DQ1_C, B10 DDR_CH1_DQ3_C, B11 DDR_CH1_A5_C, B12 DDR_CH1_CK_C, B13 DDR_CH1_CK_D, B14 DDR_CH1_A5_D, B15 DDR_CH1_DQ3_D, B16 DDR_CH1_DQ1_D, B17 DDR_CH1_DQ7_D, B18 DDR_CH1_DQ5_D, B20 DDR_CH1_DQ13_D, B21 DDR_CH1_DQ15_D, B22 DDR_CH1_DQ9_D, B23 DDR_CH1_DQ11_D, C19 DDR_CH1_RESET_D, D4 DDR_CH1_DM1_C, D5 DDR_CH1_DQS1N_C, D7 DDR_CH1_WCK1P_C, D9 DDR_CH1_DQS0N_C, D10 DDR_CH1_A6_C, D11 DDR_CH1_LP4/4X_CKE0/LP5_CS0_C, D13 DDR_CH1_A3_C, D14 DDR_CH1_A6_D, D16 DDR_CH1_LP4/4X_CKE0/LP5_CS0_D, D17 DDR_CH1_WCK0N_D, D19 DDR_CH1_LP4/4X_CS1_D, D20 DDR_CH1_DM0_D, D21 DDR_CH1_DQS1P_D, D22 DDR_CH1_DM1_D, E5 DDR_CH1_DQS1P_C, E7 DDR_CH1_WCK1N_C, E9 DDR_CH1_DQS0P_C, E10 DDR_CH1_RESET_C, E11 DDR_CH1_LP4/4X_CKE1/LP5_CS1_C, E13 DDR_CH1_A2_C, E14 DDR_CH1_A3_D, E16 DDR_CH1_LP4/4X_CKE1/LP5_CS1_D, E17 DDR_CH1_WCK0P_D, E19 DDR_CH1_LP4/4X_CS0_D, E21 DDR_CH1_DQS1N_D, F8 DDR_CH1_DM0_C, F12 DDR_CH1_A1_C, F18 DDR_CH1_ZQ_D, G8 DDR_CH1_ZQ_C, G9 DDR_CH1_WCK0P_C, G11 DDR_CH1_LP4/4X_CS0_C, G12 DDR_CH1_A0_C, G13 DDR_CH1_A2_D, G14 DDR_CH1_A1_D, G16 DDR_CH1_DQS0N_D, G18 DDR_CH1_WCK1N_D, H9 DDR_CH1_WCK0N_C, H11 DDR_CH1_LP4/4X_CS1_C, H13 DDR_CH1_VDDQ_CKE (power), H15 DDR_CH1_A0_D, H16 DDR_CH1_DQS0P_D, H18 DDR_CH1_WCK1P_D, K11 DDR_CH1_VDDQ_0 (power), K12 DDR_CH1_VDDQ_1 (power), K13 DDR_CH1_VDDQ_2 (power), K14 DDR_CH1_VDDQ_3 (power), K15 DDR_CH1_VDDQ_4 (power), K16 DDR_CH1_PLL_AVDD1V8 (power), L11 DDR_CH1_VDD_0 (power), L12 DDR_CH1_VDD_1 (power), L13 DDR_CH1_VDD_2 (power), L14 DDR_CH1_VDD_3 (power), L15 DDR_CH1_PLL_DVDD (power), L16 DDR_CH1_PLL_AVSS (power), L17 DDR_CH1_VDD_MIF_0 (power), L18 DDR_CH1_VDD_MIF_1 (power), M13 DDR_CH1_VDDQ_CK (power)
part C pins: AA32 GPIO2_D5_u, AA33 GPIO2_D3_u, AA34 GPIO2_A3_d, V26 EMMCIO_1V8 (power), V32 GPIO2_D2_u, V33 GPIO2_D7_u, V34 GPIO2_A1_d, W32 GPIO2_D6_u, W33 GPIO2_D1_u, W34 GPIO2_A0_u, Y32 GPIO2_D4_u, Y33 GPIO2_D0_u, Y34 GPIO2_A2_d
part D pins: AA7 VCCIO2_1V8 (power), AD1 GPIO4_D1_u, AD2 GPIO4_D0_u, AE1 GPIO4_D5_d, AE2 GPIO4_D4_u, AF1 GPIO4_D3_u, AF2 GPIO4_D2_u, Y7 VCCIO2 (power)
part E pins: K29 GPIO0_B2_u, K30 GPIO0_B1_z, L29 GPIO0_B3_z, L30 GPIO0_B0_z, M29 TVSS (power), M30 GPIO0_A7_u, M31 NPOR_u, N27 OSC_1V8 (power), N28 PMUIO1_1V8 (power), N30 GPIO0_A6_z, N31 GPIO0_A5_d, P27 PMU_0V75 (power), P31 GPIO0_A4_u, P32 GPIO0_A1_z, P33 GPIO0_A0_d, R31 GPIO0_A3_d, R32 GPIO0_A2_d, R34 XIN_24M, T34 XOUT_24M, U18 PLL_AVDD1V8 (power), U19 PLL_AVSS (power), V20 PLL_DVDD0V75 (power)
part F pins: P28 PMUIO2 (power), P29 GPIO0_B5_d, P30 GPIO0_C5_u, R27 PMUIO2_1V8 (power), R29 GPIO0_B6_d, R30 GPIO0_C4_d, T28 GPIO0_B7_d, T29 GPIO0_C6_u, T30 GPIO0_C3_d, T31 GPIO0_C0_d, T32 GPIO0_C2_d, U32 GPIO0_C1_d, U33 GPIO0_D3_u, V28 GPIO0_D5_u, V29 GPIO0_D4_u, V31 GPIO0_C7_d, W28 GPIO0_D6_d, W29 GPIO0_D2_u, W30 GPIO0_D1_u, W31 GPIO0_D0_d
part G pins: D28 GPIO1_D4_d, D29 GPIO1_C6_d, D30 GPIO1_C5_d, E28 GPIO1_D3_d, E29 GPIO1_C7_d, E30 GPIO1_C4_d, E31 GPIO1_C3_d, F26 GPIO1_D0_d, F27 GPIO1_D1_d, F28 GPIO1_D2_d, F30 GPIO1_C2_d, G20 VCCIO1_1V8, G26 GPIO1_D5_d, G27 GPIO1_C1_z, G29 GPIO1_C0_z
part H pins: AB30 GPIO2_B5_u, AB31 GPIO2_B4_u, AB33 GPIO4_C5_d, AB34 GPIO4_C4_d, AC30 GPIO2_C4_d, AC31 GPIO2_A7_u, AC32 GPIO2_A6_u, AC33 GPIO2_B1_u, AC34 GPIO2_B2_u, AD30 GPIO2_C3_d, AD31 GPIO2_C2_d, AD32 GPIO2_C1_d, AD33 GPIO2_B6_d, AD34 GPIO2_B7_d, AE30 GPIO2_C5_d, AE31 GPIO4_C2_d, AE32 GPIO2_B0_u, AE33 GPIO2_B3_d, AE34 GPIO2_C0_d, AF33 GPIO4_C6_d, AF34 GPIO4_C3_d, Y26 VCCIO3_1V8
part I pins: A24 GPIO1_A0_d, A25 GPIO1_A1_d, A26 GPIO1_A2_d, A27 GPIO1_A3_d, B25 GPIO1_A4_d, B26 GPIO1_A5_d, C24 GPIO1_A6_d, C25 GPIO1_A7_u, C27 GPIO1_B0_u, D25 GPIO1_B1_d, D26 GPIO1_B2_d, D27 GPIO1_B3_d, E24 GPIO1_B4_u, E25 GPIO1_B5_u, E26 GPIO1_B6_u, E27 GPIO1_B7_u, F24 GPIO1_D6_u, F25 GPIO1_D7_u, H20 VCCIO4_1V8, H21 VCCIO4
part J pins: AA27 GPIO3_D4_d, AA28 GPIO3_B7_d, AA29 GPIO3_A0_u, AA30 GPIO3_A1_u, AB28 GPIO3_D5_d, AC28 GPIO3_B3_u, AC29 GPIO3_B4_u, AD27 GPIO3_A2_u, AD28 GPIO3_A4_d, AD29 GPIO3_B5_u, AE27 GPIO3_A3_u, AE28 GPIO3_B2_d, AE29 GPIO3_B6_d, AG23 GPIO3_D1_d, AG24 GPIO3_D3_d, AG25 GPIO3_D2_d, AG26 GPIO3_C6_u, AG28 GPIO3_B0_u, AG29 GPIO3_A7_u, AH24 GPIO3_D0_u, AH25 GPIO3_C5_u, AH26 GPIO3_C4_u, AH27 GPIO3_A6_d, AH29 GPIO3_B1_d, AH30 GPIO3_A5_d, AJ24 GPIO3_C7_u, W25 VCCIO5_1V8, W26 VCCIO5, Y27 GPIO3_C1_d, Y29 GPIO3_C0_d, Y30 GPIO3_C3_d, Y31 GPIO3_C2_d
part K pins: AC25 VCCIO6_1V8, AC26 VCCIO6, AJ25 GPIO4_C0_u, AJ26 GPIO4_B5_d, AJ27 GPIO4_B6_d, AJ28 GPIO4_B7_u, AK24 GPIO4_C1_d, AK25 GPIO4_B2_u, AK26 GPIO4_B0_d, AK27 GPIO4_A5_d, AK30 GPIO4_A0_d, AL24 GPIO4_B1_u, AL26 GPIO4_B4_u, AL27 GPIO4_A6_d, AL28 GPIO4_A4_d, AL29 GPIO4_A3_d, AL30 GPIO4_A1_d, AM25 GPIO4_B3_u, AM27 GPIO4_A7_d, AM29 GPIO4_A2_d
part L pins: AG9 USB20_HOST0_REXT, AG11 USB20_AVDD_1V8, AH9 USB20_HOST1_REXT, AH10 USB20_DVDD_0V75, AJ10 USB20_AVDD_3V3, AK6 USB20_HOST0_DP, AK8 TYPEC1_USB20_OTG_ID, AK9 TYPEC1_USB20_OTG_DP, AL6 USB20_HOST0_DM, AL7 USB20_HOST1_DP, AL8 TYPEC1_USB20_VBUSDET, AL9 TYPEC1_USB20_OTG_DM, AL12 TYPEC0_USB20_OTG_DP, AL14 TYPEC0_USB20_OTG_ID, AM7 USB20_HOST1_DM, AM12 TYPEC0_USB20_OTG_DM, AM14 TYPEC0_USB20_VBUSDET, AP7 TYPEC1_USB20_OTG1_REXT, AP12 TYPEC0_USB20_OTG0_REXT
part M pins: AG13 TYPEC1_DP1_VDDH_1V8, AG14 TYPEC0_DP0_VDDH_1V8, AG16 TYPEC1_DP1_REXT, AH13 TYPEC1_DP1_VDD_0V85, AH14 TYPEC0_DP0_VDDA_0V85, AH16 TYPEC0_DP0_REXT, AJ13 TYPEC1_DP1_VDDA_0V85, AJ14 TYPEC0_DP0_VDD_0V85, AL10 TYPEC1_SBU1/DP1_AUXP, AL15 TYPEC0_SBU1/DP0_AUXP, AM10 TYPEC1_SBU2/DP1_AUXN, AM15 TYPEC0_SBU2/DP0_AUXN, AN8 TYPEC1_SSRX1P/DP1_TX0P, AN9 TYPEC1_SSTX1N/DP1_TX1N, AN10 TYPEC1_SSRX2P/DP1_TX2P, AN11 TYPEC1_SSTX2N/DP1_TX3N, AN13 TYPEC0_SSRX1P/DP0_TX0P, AN14 TYPEC0_SSTX1N/DP0_TX1N, AN15 TYPEC0_SSRX2P/DP0_TX2P, AN16 TYPEC0_SSTX2N/DP0_TX3N, AP8 TYPEC1_SSRX1N/DP1_TX0N, AP9 TYPEC1_SSTX1P/DP1_TX1P, AP10 TYPEC1_SSRX2N/DP1_TX2N, AP11 TYPEC1_SSTX2P/DP1_TX3P, AP13 TYPEC0_SSRX1N/DP0_TX0N, AP14 TYPEC0_SSTX1P/DP0_TX1P, AP15 TYPEC0_SSRX2N/DP0_TX2N, AP16 TYPEC0_SSTX2P/DP0_TX3P
part N pins: G30 PCIE20_2_REFCLKN, G31 PCIE20_2_REFCLKP, H29 PCIE20_2_TXN/SATA30_2_TXN/USB30_2_SSTXN, H30 PCIE20_2_TXP/SATA30_2_TXP/USB30_2_SSTXP, H32 PCIE20_1_REFCLKP, H33 PCIE20_1_REFCLKN, J30 PCIE20_2_RXN/SATA30_2_RXN/USB30_2_SSRXN, J31 PCIE20_2_RXP/SATA30_2_RXP/USB30_2_SSRXP, J33 PCIE20_1_RXP/SATA30_1_RXP, J34 PCIE20_1_RXN/SATA30_1_RXN, K27 PCIE20_SATA30_USB30_2_AVDD_1V8, K28 PCIE20_SATA30_USB30_2_AVDD_0V85, K33 PCIE20_1_TXP/SATA30_1_TXP, K34 PCIE20_1_TXN/SATA30_1_TXN, L27 PCIE20_SATA30_1_AVDD_1V8, L28 PCIE20_SATA30_1_AVDD_0V85, L32 PCIE20_0_REFCLKP, L33 PCIE20_0_REFCLKN, M27 PCIE20_SATA30_0_AVDD_1V8, M28 PCIE20_SATA30_0_AVDD_0V85, M33 PCIE20_0_TXN/SATA30_0_TXN, M34 PCIE20_0_TXP/SATA30_0_TXP, N33 PCIE20_0_RXP/SATA30_0_RXP, N34 PCIE20_0_RXN/SATA30_0_RXN
part O pins: A28 PCIE30_PORT1_REF_CLKP, A30 PCIE30_PORT1_TX0N, A32 PCIE30_PORT1_RX0N, A33 PCIE30_PORT1_RESREF, B28 PCIE30_PORT1_REF_CLKN, B29 PCIE30_PORT1_TX1N, B30 PCIE30_PORT1_TX0P, B31 PCIE30_PORT1_RX1N, B32 PCIE30_PORT1_RX0P, B34 PCIE30_PORT0_RESREF, C29 PCIE30_PORT1_TX1P, C31 PCIE30_PORT1_RX1P, C33 PCIE30_PORT0_TX1P, C34 PCIE30_PORT0_TX1N, D32 PCIE30_PORT0_TX0P, D33 PCIE30_PORT0_TX0N, E33 PCIE30_PORT0_REF_CLKP, E34 PCIE30_PORT0_REF_CLKN, F32 PCIE30_PORT0_RX1P, F33 PCIE30_PORT0_RX1N, G23 PCIE30_PORT0_AVDD1V8, G24 PCIE30_PORT0_AVDD0V75, G33 PCIE30_PORT0_RX0P, G34 PCIE30_PORT0_RX0N, H23 PCIE30_PORT1_AVDD1V8, H24 PCIE30_PORT1_AVDD0V75
part P pins: AA25 MIPI_CSI1_AVCC0V75, AA26 MIPI_CSI1_AVCC1V8, AB25 MIPI_CSI0_AVCC0V75, AB26 MIPI_CSI0_AVCC1V8, AG31 MIPI_CSI1_D0P, AG32 MIPI_CSI1_D0N, AG33 MIPI_CSI0_D0P, AG34 MIPI_CSI0_D0N, AH31 MIPI_CSI1_D1P, AH32 MIPI_CSI1_D1N, AH33 MIPI_CSI0_D1P, AH34 MIPI_CSI0_D1N, AJ31 MIPI_CSI1_CLK0P, AJ32 MIPI_CSI1_CLK0N, AJ33 MIPI_CSI0_CLK0P, AJ34 MIPI_CSI0_CLK0N, AK31 MIPI_CSI1_D2P, AK32 MIPI_CSI1_D2N, AK33 MIPI_CSI0_D2P, AK34 MIPI_CSI0_D2N, AL31 MIPI_CSI1_D3P, AL32 MIPI_CSI1_D3N, AL33 MIPI_CSI0_D3P, AL34 MIPI_CSI0_D3N, AM31 MIPI_CSI1_CLK1P, AM32 MIPI_CSI1_CLK1N, AM33 MIPI_CSI0_CLK1P, AM34 MIPI_CSI0_CLK1N
part Q pins: AF20 MIPI_D/C_PHY0_VREG, AG20 MIPI_D/C_PHY0_VDD, AH20 MIPI_D/C_PHY0_VDD_1V2, AJ20 MIPI_D/C_PHY0_VDD_1V8, AN24 MIPI_DPHY0_TX_D0P/MIPI_CPHY0_TX_TRIO0_B, AN25 MIPI_DPHY0_TX_D1P/MIPI_CPHY0_TX_TRIO1_A, AN26 MIPI_DPHY0_TX_CLKP/MIPI_CPHY0_TX_TRIO1_C, AN27 MIPI_DPHY0_TX_D2P/MIPI_CPHY0_TX_TRIO2_B, AN28 MIPI_DPHY0_TX_D3P/NO_USE, AN29 MIPI_DPHY0_RX_D0P/MIPI_CPHY0_RX_TRIO0_B, AN30 MIPI_DPHY0_RX_D1P/MIPI_CPHY0_RX_TRIO1_A, AN32 MIPI_DPHY0_RX_CLKP/MIPI_CPHY0_RX_TRIO1_C, AN33 MIPI_DPHY0_RX_D2P/MIPI_CPHY0_RX_TRIO2_B, AN34 MIPI_DPHY0_RX_D3P/NO_USE, AP24 MIPI_DPHY0_TX_D0N/MIPI_CPHY0_TX_TRIO0_A, AP25 MIPI_DPHY0_TX_D1N/MIPI_CPHY0_TX_TRIO0_C, AP26 MIPI_DPHY0_TX_CLKN/MIPI_CPHY0_TX_TRIO1_B, AP27 MIPI_DPHY0_TX_D2N/MIPI_CPHY0_TX_TRIO2_A, AP28 MIPI_DPHY0_TX_D3N/MIPI_CPHY0_TX_TRIO2_C, AP29 MIPI_DPHY0_RX_D0N/MIPI_CPHY0_RX_TRIO0_A, AP30 MIPI_DPHY0_RX_D1N/MIPI_CPHY0_RX_TRIO0_C, AP31 MIPI_DPHY0_RX_CLKN/MIPI_CPHY0_RX_TRIO1_B, AP32 MIPI_DPHY0_RX_D2N/MIPI_CPHY0_RX_TRIO2_A, AP33 MIPI_DPHY0_RX_D3N/MIPI_CPHY0_RX_TRIO2_C
part R pins: AF19 MIPI_D/C_PHY1_VREG, AG19 MIPI_D/C_PHY1_VDD, AH19 MIPI_D/C_PHY1_VDD_1V2, AJ19 MIPI_D/C_PHY1_VDD_1V8, AK18 MIPI_DPHY1_RX_D0P/MIPI_CPHY1_RX_TRIO0_B, AK19 MIPI_DPHY1_RX_D1P/MIPI_CPHY1_RX_TRIO1_A, AK20 MIPI_DPHY1_RX_CLKP/MIPI_CPHY1_RX_TRIO1_C, AK21 MIPI_DPHY1_RX_D2P/MIPI_CPHY1_RX_TRIO2_B, AK22 MIPI_DPHY1_RX_D3P/NO_USE, AL18 MIPI_DPHY1_RX_D0N/MIPI_CPHY1_RX_TRIO0_A, AL19 MIPI_DPHY1_RX_D1N/MIPI_CPHY1_RX_TRIO0_C, AL20 MIPI_DPHY1_RX_CLKN/MIPI_CPHY1_RX_TRIO1_B, AL21 MIPI_DPHY1_RX_D2N/MIPI_CPHY1_RX_TRIO2_A, AL22 MIPI_DPHY1_RX_D3N/MIPI_CPHY1_RX_TRIO2_C, AN18 MIPI_DPHY1_TX_D0P/MIPI_CPHY1_TX_TRIO0_B, AN19 MIPI_DPHY1_TX_D1P/MIPI_CPHY1_TX_TRIO1_A, AN20 MIPI_DPHY1_TX_CLKP/MIPI_CPHY1_TX_TRIO1_C, AN21 MIPI_DPHY1_TX_D2P/MIPI_CPHY1_TX_TRIO2_B, AN22 MIPI_DPHY1_TX_D3P/NO_USE, AP18 MIPI_DPHY1_TX_D0N/MIPI_CPHY1_TX_TRIO0_A, AP19 MIPI_DPHY1_TX_D1N/MIPI_CPHY1_TX_TRIO0_C, AP20 MIPI_DPHY1_TX_CLKN/MIPI_CPHY1_TX_TRIO1_B, AP21 MIPI_DPHY1_TX_D2N/MIPI_CPHY1_TX_TRIO2_A, AP22 MIPI_DPHY1_TX_D3N/MIPI_CPHY1_TX_TRIO2_C
part S pins: AA9 HDMI/EDP_TX0_VDD_0V75, AB9 HDMI/EDP_TX0_AVDD_0V75, AC6 HDMI/EDP_TX0_VDD_CMN_1V8, AC7 HDMI/EDP_TX0_VDD_IO_1V8, AC9 HDMI/EDP_TX1_AVDD_0V75, AD6 HDMI/EDP_TX1_VDD_CMN_1V8, AD7 HDMI/EDP_TX1_VDD_IO_1V8, AD9 HDMI/EDP_TX1_VDD_0V75, AG1 HDMI_TX0_SBDN/EDP_TX0_AUXN, AG2 HDMI_TX0_SBDP/EDP_TX0_AUXP, AH2 HDMI_TX0_D3N/EDP_TX0_D3N, AH3 HDMI_TX0_D3P/EDP_TX0_D3P, AJ1 HDMI_TX0_D0N/EDP_TX0_D0N, AJ2 HDMI_TX0_D0P/EDP_TX0_D0P, AK2 HDMI_TX0_D1N/EDP_TX0_D1N, AK3 HDMI_TX0_D1P/EDP_TX0_D1P, AL1 HDMI_TX0_D2N/EDP_TX0_D2N, AL2 HDMI_TX0_D2P/EDP_TX0_D2P, AM2 HDMI/EDP_TX0_REXT, AM3 HDMI_TX1_D3P/EDP_TX1_D3P, AM5 HDMI_TX1_D1P/EDP_TX1_D1P, AN1 HDMI/EDP_TX1_REXT, AN2 HDMI_TX1_SBDP/EDP_TX1_AUXP, AN3 HDMI_TX1_D3N/EDP_TX1_D3N, AN4 HDMI_TX1_D0P/EDP_TX1_D0P, AN5 HDMI_TX1_D1N/EDP_TX1_D1N, AN6 HDMI_TX1_D2P/EDP_TX1_D2P, AP2 HDMI_TX1_SBDN/EDP_TX1_AUXN, AP4 HDMI_TX1_D0N/EDP_TX1_D0N, AP6 HDMI_TX1_D2N/EDP_TX1_D2N
part T pins: AE4 HDMI_RX_VPH3V3, AE5 HDMI_RX_DVDD3V3, AE8 HDMI_RX_AVDD0V75, AF3 HDMI_RX_REXT, AF5 HDMI_RX_CLKN, AF6 HDMI_RX_CLKP, AG4 HDMI_RX_D0N, AG5 HDMI_RX_D0P, AH5 HDMI_RX_D1N, AH6 HDMI_RX_D1P, AJ4 HDMI_RX_D2N, AJ5 HDMI_RX_D2P
part U pins: AD3 OTP_VDDOTP_0V75, AD4 NC, AF18 TSADC_TEST_OUT_TS, AH18 SARADC_AVDD_1V8 (power), AK15 SARADC_IN5, AK16 SARADC_IN2, AK17 SARADC_IN7, AL16 SARADC_IN1, AL17 SARADC_IN6, AM16 SARADC_IN0_BOOT, AM17 SARADC_IN4, AN17 SARADC_IN3
part V pins: AA12 VDD_GPU_MEM_0 (power), AA13 VDD_GPU_0 (power), AA14 VDD_GPU_7 (power), AA15 VDD_GPU_11 (power), AB12 VDD_GPU_MEM_1 (power), AB13 VDD_GPU_1 (power), AB14 VDD_GPU_6 (power), AB15 VDD_GPU_10 (power), AB21 VDD_NPU_6 (power), AB22 VDD_NPU_5 (power), AB23 VDD_NPU_2 (power), AC13 VDD_GPU_2 (power), AC14 VDD_GPU_5 (power), AC15 VDD_GPU_9 (power), AC17 VDD_LOGIC_5 (power), AC18 VDD_LOGIC_4 (power), AC19 VDD_LOGIC_3 (power), AC22 VDD_NPU_4 (power), AC23 VDD_NPU_1 (power), AD13 VDD_GPU_3 (power), AD14 VDD_GPU_4 (power), AD15 VDD_GPU_8 (power), AD17 VDD_LOGIC_0 (power), AD18 VDD_LOGIC_1 (power), AD19 VDD_LOGIC_2 (power), AD22 VDD_NPU_3 (power), AD23 VDD_NPU_0 (power), AE22 VDD_NPU_MEM_0 (power), AE23 VDD_NPU_MEM_1 (power), K19 VDD_LOGIC_8 (power), K20 VDD_LOGIC_9 (power), K23 VDD_CPU_BIG1_9 (power), K24 VDD_CPU_BIG1_0 (power), L23 VDD_CPU_BIG1_8 (power), L24 VDD_CPU_BIG1_1 (power), M16 VDD_CPU_BIG0_0 (power), M17 VDD_CPU_BIG0_9 (power), M19 VDD_CPU_BIG0_MEM_0 (power), M21 VDD_CPU_BIG1_MEM_0 (power), M23 VDD_CPU_BIG1_7 (power), M24 VDD_CPU_BIG1_2 (power), N16 VDD_CPU_BIG0_1 (power), N17 VDD_CPU_BIG0_8 (power), N19 VDD_CPU_BIG0_MEM_1 (power), N21 VDD_CPU_BIG1_MEM_1 (power), N23 VDD_CPU_BIG1_6 (power), N24 VDD_CPU_BIG1_3 (power), P16 VDD_CPU_BIG0_2 (power), P17 VDD_CPU_BIG0_7 (power), P23 VDD_CPU_BIG1_5 (power), P24 VDD_CPU_BIG1_4 (power), R14 VDD_VDENC_0 (power), R16 VDD_CPU_BIG0_3 (power), R17 VDD_CPU_BIG0_6 (power), T14 VDD_VDENC_1 (power), T16 VDD_CPU_BIG0_4 (power), T17 VDD_CPU_BIG0_5 (power), T21 VDD_CPU_LIT_MEM_1 (power), T22 VDD_CPU_LIT_MEM_0 (power), U14 VDD_VDENC_2 (power), U21 VDD_CPU_LIT_7 (power), U22 VDD_CPU_LIT_0 (power), V12 VDD_VDENC_MEM_0 (power), V13 VDD_VDENC_MEM_1 (power), V14 VDD_VDENC_3 (power), V16 VDD_LOGIC_6 (power), V17 VDD_LOGIC_7 (power), V21 VDD_CPU_LIT_6 (power), V22 VDD_CPU_LIT_1 (power), W13 VDD_VDENC_5 (power), W14 VDD_VDENC_4 (power), W21 VDD_CPU_LIT_5 (power), W22 VDD_CPU_LIT_2 (power), Y21 VDD_CPU_LIT_4 (power), Y22 VDD_CPU_LIT_3 (power)
part W pins: A1 VSS_1 (power), A11 VSS_2 (power), A14 VSS_3 (power), A34 VSS_4 (power), B6 VSS_5 (power), B19 VSS_6 (power), B24 VSS_7 (power), B27 VSS_8 (power), B33 VSS_9 (power), C3 VSS_10 (power), C4 VSS_11 (power), C5 VSS_12 (power), C6 VSS_13 (power), C7 VSS_14 (power), C8 VSS_15 (power), C9 VSS_16 (power), C10 VSS_17 (power), C11 VSS_18 (power), C12 VSS_19 (power), C13 VSS_20 (power), C14 VSS_21 (power), C15 VSS_22 (power), C16 VSS_23 (power), C17 VSS_24 (power), C18 VSS_25 (power), C20 VSS_26 (power), C21 VSS_27 (power), C22 VSS_28 (power), C23 VSS_29 (power), C26 VSS_30 (power), C28 VSS_31 (power), C30 VSS_32 (power), C32 VSS_33 (power), D3 VSS_34 (power), D23 VSS_35 (power), D24 VSS_36 (power), D31 VSS_37 (power), E3 VSS_38 (power), E6 VSS_39 (power), E8 VSS_40 (power), E12 VSS_41 (power), E18 VSS_42 (power), E20 VSS_43 (power), E22 VSS_44 (power), E23 VSS_45 (power), E32 VSS_46 (power), F3 VSS_47 (power), F7 VSS_48 (power), F9 VSS_49 (power), F10 VSS_50 (power), F11 VSS_51 (power), F13 VSS_52 (power), F14 VSS_53 (power), F15 VSS_54 (power), F16 VSS_55 (power), F19 VSS_56 (power), F20 VSS_57 (power), F21 VSS_58 (power), F22 VSS_59 (power), F23 VSS_60 (power), F31 VSS_61 (power), G3 VSS_62 (power), G6 VSS_63 (power), G10 VSS_64 (power), G15 VSS_65 (power), G19 VSS_66 (power), G21 VSS_67 (power), G22 VSS_68 (power), G25 VSS_69 (power), G32 VSS_70 (power), H3 VSS_71 (power), H6 VSS_72 (power), H10 VSS_73 (power), H12 VSS_74 (power), H14 VSS_75 (power), H19 VSS_76 (power), H22 VSS_77 (power), H25 VSS_78 (power), H26 VSS_79 (power), J3 VSS_80 (power), J4 VSS_81 (power), J5 VSS_82 (power), J6 VSS_83 (power), J10 VSS_84 (power), J11 VSS_85 (power), J12 VSS_86 (power), J13 VSS_87 (power), J14 VSS_88 (power), J15 VSS_89 (power), J16 VSS_90 (power), J18 VSS_91 (power), J19 VSS_92 (power), J20 VSS_93 (power), J21 VSS_94 (power), J22 VSS_95 (power), J23 VSS_96 (power), J24 VSS_97 (power), J25 VSS_98 (power), K3 VSS_99 (power), K6 VSS_100 (power), K8 VSS_101 (power), K9 VSS_102 (power), K18 VSS_103 (power), K21 VSS_104 (power), K22 VSS_105 (power), L1 VSS_106 (power)
part X pins: L3 VSS_107 (power), L6 VSS_108 (power), L9 VSS_109 (power), L19 VSS_110 (power), L20 VSS_111 (power), L21 VSS_112 (power), L22 VSS_113 (power), L25 VSS_114 (power), M3 VSS_115 (power), M6 VSS_116 (power), M9 VSS_117 (power), M14 VSS_118 (power), M15 VSS_119 (power), M18 VSS_120 (power), M20 VSS_121 (power), M22 VSS_122 (power), M25 VSS_123 (power), N3 VSS_124 (power), N6 VSS_125 (power), N9 VSS_126 (power), N11 VSS_127 (power), N14 VSS_128 (power), N15 VSS_129 (power), N18 VSS_130 (power), N20 VSS_131 (power), N22 VSS_132 (power), N25 VSS_133 (power), N26 VSS_134 (power), N29 VSS_135 (power), P1 VSS_136 (power), P3 VSS_137 (power), P6 VSS_138 (power), P8 VSS_139 (power), P9 VSS_140 (power), P11 VSS_141 (power), P14 VSS_142 (power), P15 VSS_143 (power), P18 VSS_144 (power), P19 VSS_145 (power), P20 VSS_146 (power), P21 VSS_147 (power), P22 VSS_148 (power), P25 VSS_149 (power), P26 VSS_150 (power), P34 VSS_151 (power), R3 VSS_152 (power), R5 VSS_153 (power), R8 VSS_154 (power), R9 VSS_155 (power), R11 VSS_156 (power), R13 VSS_157 (power), R15 VSS_158 (power), R18 VSS_159 (power), R19 VSS_160 (power), R20 VSS_161 (power), R21 VSS_162 (power), R22 VSS_163 (power), R23 VSS_164 (power), R24 VSS_165 (power), R25 VSS_166 (power), R26 VSS_167 (power), R28 VSS_168 (power), R33 VSS_169 (power), T3 VSS_170 (power), T6 VSS_171 (power), T9 VSS_172 (power), T11 VSS_173 (power), T13 VSS_174 (power), T15 VSS_175 (power), T18 VSS_176 (power), T19 VSS_177 (power), T20 VSS_178 (power), T23 VSS_179 (power), T24 VSS_180 (power), T25 VSS_181 (power), T26 VSS_182 (power), T27 VSS_183 (power), T33 VSS_184 (power), U3 VSS_185 (power), U12 VSS_186 (power), U13 VSS_187 (power), U15 VSS_188 (power), U16 VSS_189 (power), U17 VSS_190 (power), U20 VSS_191 (power), U23 VSS_192 (power), U24 VSS_193 (power), U30 VSS_194 (power), U31 VSS_195 (power), U34 VSS_196 (power), V3 VSS_197 (power), V4 VSS_198 (power), V5 VSS_199 (power), V8 VSS_200 (power), V9 VSS_201 (power), V10 VSS_202 (power), V11 VSS_203 (power), V15 VSS_204 (power), V18 VSS_205 (power), V19 VSS_206 (power), V23 VSS_207 (power), V24 VSS_208 (power), V25 VSS_209 (power), V27 VSS_210 (power), V30 VSS_211 (power), W2 VSS_212 (power)
part Y pins: AA3 VSS_248 (power), AA6 VSS_249 (power), AA11 VSS_250 (power), AA16 VSS_251 (power), AA17 VSS_252 (power), AA18 VSS_253 (power), AA19 VSS_254 (power), AA20 VSS_255 (power), AA21 VSS_256 (power), AA22 VSS_257 (power), AA23 VSS_258 (power), AA24 VSS_259 (power), AA31 VSS_260 (power), AB3 VSS_261 (power), AB5 VSS_262 (power), AB11 VSS_263 (power), AB16 VSS_264 (power), AB17 VSS_265 (power), AB18 VSS_266 (power), AB19 VSS_267 (power), AB20 VSS_268 (power), AB24 VSS_269 (power), AB27 VSS_270 (power), AB29 VSS_271 (power), AB32 VSS_272 (power), AC3 VSS_273 (power), AC4 VSS_274 (power), AC11 VSS_275 (power), AC12 VSS_276 (power), AC16 VSS_277 (power), AC20 VSS_278 (power), AC21 VSS_279 (power), AC24 VSS_280 (power), AC27 VSS_281 (power), AD11 VSS_282 (power), AD12 VSS_283 (power), AD16 VSS_284 (power), AD20 VSS_285 (power), AD21 VSS_286 (power), AD24 VSS_287 (power), AD25 VSS_288 (power), AD26 VSS_289 (power), AE3 VSS_290 (power), AE11 VSS_291 (power), AE12 VSS_292 (power), AE13 VSS_293 (power), AE14 VSS_294 (power), AE15 VSS_295 (power), AE16 VSS_296 (power), AE18 VSS_297 (power), AE19 VSS_298 (power), AE20 VSS_299 (power), AE21 VSS_300 (power), AE24 VSS_301 (power), AE26 VSS_302 (power), AF22 VSS_303 (power), AF24 VSS_304 (power), AF25 VSS_305 (power), AF27 VSS_306 (power), AF28 VSS_307 (power), AF29 VSS_308 (power), AF30 VSS_309 (power), AF31 VSS_310 (power), AF32 VSS_311 (power), AG30 VSS_312 (power), AJ30 VSS_313 (power), AK28 VSS_314 (power), AK29 VSS_315 (power), AL25 VSS_316 (power), AM30 VSS_317 (power), W3 VSS_213 (power), W6 VSS_214 (power), W7 VSS_215 (power), W9 VSS_216 (power), W10 VSS_217 (power), W11 VSS_218 (power), W12 VSS_219 (power), W15 VSS_220 (power), W16 VSS_221 (power), W17 VSS_222 (power), W18 VSS_223 (power), W19 VSS_224 (power), W20 VSS_225 (power), W23 VSS_226 (power), W24 VSS_227 (power), W27 VSS_228 (power), Y3 VSS_229 (power), Y5 VSS_230 (power), Y6 VSS_231 (power), Y8 VSS_232 (power), Y9 VSS_233 (power), Y10 VSS_234 (power), Y11 VSS_235 (power), Y12 VSS_236 (power), Y13 VSS_237 (power), Y14 VSS_238 (power), Y15 VSS_239 (power), Y16 VSS_240 (power), Y17 VSS_241 (power), Y18 VSS_242 (power), Y19 VSS_243 (power), Y20 VSS_244 (power), Y23 VSS_245 (power), Y24 VSS_246 (power), Y28 VSS_247 (power)
part Z pins: AA8 AVSS_15 (power), AA10 AVSS_16 (power), AB6 AVSS_17 (power), AB7 AVSS_18 (power), AB8 AVSS_19 (power), AB10 AVSS_20 (power), AC5 AVSS_21 (power), AC8 AVSS_22 (power), AC10 AVSS_23 (power), AD5 AVSS_24 (power), AD8 AVSS_25 (power), AD10 AVSS_26 (power), AE6 AVSS_27 (power), AE7 AVSS_28 (power), AE9 AVSS_29 (power), AF4 AVSS_30 (power), AF7 AVSS_31 (power), AF8 AVSS_32 (power), AF11 AVSS_33 (power), AF12 AVSS_34 (power), AF13 AVSS_35 (power), AF14 AVSS_36 (power), AF15 AVSS_37 (power), AF16 AVSS_38 (power), AF21 AVSS_39 (power), AG3 AVSS_40 (power), AG6 AVSS_41 (power), AG7 AVSS_42 (power), AG10 AVSS_43 (power), AG12 AVSS_44 (power), AG15 AVSS_45 (power), AG18 AVSS_46 (power), AG21 AVSS_47 (power), AG22 AVSS_48 (power), AH4 AVSS_49 (power), AH8 AVSS_50 (power), AH11 AVSS_51 (power), AH12 AVSS_52 (power), AH15 AVSS_53 (power), AH21 AVSS_54 (power), AH22 AVSS_55 (power), AH23 AVSS_56 (power), AJ3 AVSS_57 (power), AJ7 AVSS_58 (power), AJ8 AVSS_59 (power), AJ9 AVSS_60 (power), AJ11 AVSS_61 (power), AJ12 AVSS_62 (power), AJ15 AVSS_63 (power), AJ16 AVSS_64 (power), AJ18 AVSS_65 (power), AJ21 AVSS_66 (power), AJ22 AVSS_67 (power), AJ23 AVSS_68 (power), AK4 AVSS_69 (power), AK5 AVSS_70 (power), AK7 AVSS_71 (power), AK10 AVSS_72 (power), AK11 AVSS_73 (power), AK12 AVSS_74 (power), AK13 AVSS_75 (power), AK14 AVSS_76 (power), AK23 AVSS_77 (power), AL3 AVSS_78 (power), AL4 AVSS_79 (power), AL5 AVSS_80 (power), AL11 AVSS_81 (power), AL13 AVSS_82 (power), AL23 AVSS_83 (power), AM4 AVSS_84 (power), AM8 AVSS_85 (power), AM9 AVSS_86 (power), AM18 AVSS_87 (power), AM20 AVSS_88 (power), AM22 AVSS_89 (power), AM23 AVSS_90 (power), AM24 AVSS_91 (power), AM26 AVSS_92 (power), AM28 AVSS_93 (power), AN7 AVSS_94 (power), AN12 AVSS_95 (power), AN23 AVSS_96 (power), AN31 AVSS_97 (power), AP1 AVSS_98 (power), AP17 AVSS_99 (power), AP23 AVSS_100, AP34 AVSS_101 (power), H28 AVSS_1 (power), H31 AVSS_2 (power), J27 AVSS_3 (power), J28 AVSS_4 (power), J29 AVSS_5 (power), J32 AVSS_6 (power), K26 AVSS_7 (power), K31 AVSS_8 (power), K32 AVSS_9 (power), L26 AVSS_10 (power), L31 AVSS_11 (power), M26 AVSS_12 (power), M32 AVSS_13 (power), N32 AVSS_14 (power)
part A text: DDR_PLL POWER; LP4/4X_CKE&LP5_CS & Reset Power; 0.75V-0.85V; 1.8V; LPDDR4/4X=1.1V / LPDDR5=1.05V; MEMORY INTERFACE POWER; CK Power; LPDDR4/4X=0.6V / LPDDR5=0.5V; DIGITAL CORE POWER; DDR IO POWER; (Except for ck, / cke and reset)
part B text: DDR_PLL POWER; LP4/4X_CKE&LP5_CS & Reset Power; 0.75V-0.85V; 1.8V; LPDDR4/4X=1.1V / LPDDR5=1.05V; MEMORY INTERFACE POWER; CK Power; LPDDR4/4X=0.6V / LPDDR5=0.5V; DIGITAL CORE POWER; DDR IO POWER; (Except for ck, / cke and reset)
part C text: EMMCIO Domain; Operating Voltage=1.8V; FSPI_D0_M0; /; EMMC_D0; FSPI_D1_M0; EMMC_D1; FSPI_D2_M0; EMMC_D2; FSPI_D3_M0; EMMC_D3; UART5_RX_M2; I2C1_SCL_M3; EMMC_D4; UART5_TX_M2; I2C1_SDA_M3; EMMC_D5; FSPI_CS0N_M0; EMMC_D6; FSPI_CS1N_M0; EMMC_D7; FSPI_CLK_M0; EMMC_CMD; EMMC_CLKOUT; UART5_CTSN_M1; I2C2_SDA_M2; EMMC_DATA_STROBE; UART5_RTSN_M1; I2C2_SCL_M2; EMMC_RSTN
part D text: VCCIO2 Domain; Operating Voltage=1.8V/3.3V; PWM8_M1; /; I2C3_SCL_M4; PDM1_SDI3_M0; JTAG_TCK_M1; UART2_TX_M1; SDMMC_D0; PWM9_M1; I2C3_SDA_M4; PDM1_SDI2_M0; JTAG_TMS_M1; UART2_RX_M1; SDMMC_D1; I2C8_SCL_M0; PDM1_SDI1_M0; JTAG_TCK_M0; UART5_CTSN_M0; SDMMC_D2; PWM10_M1; I2C8_SDA_M0; PDM1_SDI0_M0; JTAG_TMS_M0; UART5_RTSN_M0; SDMMC_D3; PWM7_IR_M1; CAN0_TX_M1; PDM1_CLK1_M0; MCU_JTAG_TCK_M0; UART5_RX_M0; SDMMC_CMD; TEST_CLKOUT_M0; CAN0_RX_M1; PDM1_CLK0_M0; MCU_JTAG_TMS_M0; UART5_TX_M0; SDMMC_CLK
part E text: OSC; PMUIO1 Domain; Operating Voltage=1.8V Only; REFCLK_OUT; /; TSADC_SHUT_ORG; TSADC_SHUT; PMIC_SLEEP1; PMIC_SLEEP2; SDMMC_DET; PMU_DEBUG; SDMMC_PWREN; SPI2_CLK_M2; I2C0_SDA_M0; SPI2_MOSI_M2; PMIC_INT_L; UART0_RX_M1; I2C1_SCL_M1; SPI2_CS1_M2; PWM5_M0; UART0_TX_M1; I2C1_SDA_M1; SPI2_CS0_M2; CLK32K_OUT0; CLK32K_IN; PLL; I2C0_SCL_M0; SPI2_MISO_M2; PMUIO1/2 Domain Logic Power; Operating Voltage=0.75V
part F text: PMUIO2 Domain; Operating Voltage=1.8V/3.3V; /; UART2_TX_M0; I2S1_MCLK_M1; PCIE30X1_1_CLKREQN_M0; I2C1_SCL_M0; JTAG_TCK_M2; UART2_RX_M0; I2S1_SCLK_M1; PCIE30X1_1_WAKEN_M0; I2C1_SDA_M0; JTAG_TMS_M2; CAN0_TX_M0; I2S1_LRCK_M1; PCIE30X1_1_PERSTN_M0; SPI0_CS1_M0; I2C2_SCL_M0; PWM0_M0; CAN0_RX_M0; PDM0_CLK0_M1; PCIE30X1_0_CLKREQN_M0; SPI0_MOSI_M0; I2C2_SDA_M0; PWM1_M0; PMIC_SLEEP3; PMIC_SLEEP4; PMIC_SLEEP5; UART0_RX_M0; DP0_HPDIN_M1; PDM0_CLK1_M1; PCIE30X1_0_WAKEN_M0; I2C4_SDA_M2; PWM2_M0; UART0_TX_M0; DP1_HPDIN_M1; I2S1_SDI0_M1; PCIE30X1_0_PERSTN_M0; I2C4_SCL_M2; GPU_AVS; PWM4_M0; UART0_RTSN; SATA_CP_POD; I2S1_SDI1_M1; PCIE30X4_CLKREQN_M0; SPI0_CLK_M0; NPU_AVS; PWM5_M1; UART1_RTSN_M2; PDM0_SDI0_M1; I2S1_SDI2_M1; PCIE30X4_WAKEN_M0; SPI0_MISO_M0; I2C6_SDA_M0; PWM6_M0; UART1_CTSN_M2; PDM0_SDI1_M1; I2S1_SDI3_M1; PCIE30X4_PERSTN_M0; SPI3_MISO_M2; I2C6_SCL_M0; PWM7_IR_M0; HDMI_TX0_CEC_M1; UART1_TX_M2; UART0_CTSN; HDMI_RX_SDA_M0; I2S1_SDO0_M1; PCIE30X2_CLKREQN_M0; SPI0_CS0_M0; I2C0_SCL_M2; CPU_BIG0_AVS; HDMI_TX1_CEC_M1; UART1_RX_M2; HDMI_RX_SCL_M0; I2S1_SDO1_M1; PCIE30X2_WAKEN_M0; SPI3_MOSI_M2; I2C0_SDA_M2; SPI3_CLK_M2; LITCPU_AVS; HDMI_TX0_SDA_M1; SATA_CPDET; CAN2_RX_M1; PDM0_SDI2_M1; I2S1_SDO2_M1; PCIE30X2_PERSTN_M0; SPI3_CS0_M2; I2C1_SCL_M2; PWM3_IR_M0; HDMI_TX0_SCL_M1; SATA_MP_SWITCH; CAN2_TX_M1; I2S1_SDO3_M1; SPI3_CS1_M2; I2C1_SDA_M2; CPU_BIG1_AVS; PDM0_SDI3_M1; PMIC_SLEEP6
part G text: VCCIO1 Domain; Operating Voltage=1.8V; SPI4_MISO_M0; /; UART3_RX_M0; I2C3_SDA_M0; SPI4_MOSI_M0; UART3_TX_M0; I2C3_SCL_M0; SPI4_CLK_M0; UART3_RTSN; PWM3_IR_M2; I2C6_SDA_M1; I2S0_MCLK; SPI4_CS0_M0; UART3_CTSN; PWM7_IR_M2; I2C6_SCL_M1; I2S0_SCLK; SPI4_CS1_M0; PWM11_IR_M2; I2C2_SDA_M3; PDM0_CLK1_M0; UART4_RTSN; I2C2_SCL_M3; I2S0_LRCK; PWM15_IR_M2; I2C4_SDA_M4; PDM0_CLK0_M0; UART4_CTSN; I2C4_SCL_M4; I2S0_SDO0; SPI1_MISO_M2; UART6_TX_M2; I2C7_SCL_M0; I2S0_SDO1; SPI1_MOSI_M2; UART6_RX_M2; I2C7_SDA_M0; PDM0_SDI1_M0; I2S0_SDO2/I2S0_SDI3; SPI1_CLK_M2; UART4_TX_M0; PWM0_M1; I2C1_SCL_M4; PDM0_SDI2_M0; I2S0_SDO3/I2S0_SDI2; SPI1_CS0_M2; UART4_RX_M0; PWM1_M1; I2C1_SDA_M4; PDM0_SDI3_M0; I2S0_SDI1; I2S0_SDI0; SPI1_CS1_M2; PDM0_SDI0_M0
part H text: VCCIO3 Domain; Operating Voltage=1.8V; /; UART6_RX_M0; FSPI_D0_M1; SDIO_D0_M0; GMAC0_RXD2; UART6_TX_M0; FSPI_D1_M1; SDIO_D1_M0; GMAC0_RXD3; I2C8_SCL_M1; UART6_RTSN_M0; FSPI_D2_M1; SDIO_D2_M0; GMAC0_RXCLK; I2C8_SDA_M1; UART6_CTSN_M0; FSPI_D3_M1; SDIO_D3_M0; GMAC0_TXD2; I2C3_SCL_M3; SDIO_CMD_M0; GMAC0_TXD3; I2C3_SDA_M3; FSPI_CLK_M1; SDIO_CLK_M0; GMAC0_TXCLK; I2C4_SDA_M1; UART7_RX_M0; FSPI_CS0N_M1; HDMI_TX1_SDA_M0; GMAC0_PTP_REFCLK; I2C4_SCL_M1; UART7_TX_M0; FSPI_CS1N_M1; HDMI_TX1_SCL_M0; GMAC0_PPSTRIG; I2C5_SCL_M4; UART1_RX_M0; I2S2_MCLK_M0; GMAC0_TXD0; I2C5_SDA_M4; UART1_TX_M0; I2S2_SCLK_M0; GMAC0_TXD1; I2C2_SDA_M1; UART1_RTSN_M0; SPI1_CLK_M0; I2S2_LRCK_M0; GMAC0_TXEN; I2C2_SCL_M1; UART1_CTSN_M0; SPI1_MISO_M0; GMAC0_RXD0; I2C6_SDA_M2; UART9_TX_M0; SPI1_MOSI_M0; GMAC0_RXD1; I2C6_SCL_M2; SPI1_CS0_M0; I2S2_SDI_M0; ETH0_REFCLKO_25M; TEST_CLKOUT_M1; UART9_RX_M0; SPI1_CS1_M0; HDMI_TX1_CEC_M0; GMAC0_PPSCLK; CLK32K_OUT1; UART7_RTSN_M0; SPI3_CS0_M0; PWM2_M2; GMAC0_RXDV_CRS; I2C7_SCL_M1; PWM4_M1; SPI3_CS1_M0; I2S2_SDO_M0; GMAC0_MCLKINOUT; I2C7_SDA_M1; UART9_RTSN_M0; SPI3_MISO_M0; PWM5_M2; GMAC0_MDC; I2C0_SCL_M1; UART9_CTSN_M0; SPI3_MOSI_M0; PWM6_M2; GMAC0_MDIO; I2C0_SDA_M1; UART7_CTSN_M0; SPI3_CLK_M0; PWM7_IR_M3; GMAC0_TXER
part I text: VCCIO4 Domain; Operating Voltage=1.8V/3.3V; /; SPI4_MISO_M2; PCIE30X1_1_CLKREQN_M2; DP0_HPDIN_M2; I2C2_SDA_M4; UART6_RX_M1; SATA1_ACT_LED_M1; SPI4_MOSI_M2; PCIE30X1_1_WAKEN_M2; DP1_HPDIN_M2; I2C2_SCL_M4; UART6_TX_M1; PWM0_M2; SPI4_CLK_M2; VOP_POST_EMPTY; I2C4_SDA_M3; UART6_RTSN_M1; PWM1_M2; SPI4_CS0_M2; HDMI_TX1_SDA_M2; I2C4_SCL_M3; UART6_CTSN_M1; SPI2_MISO_M0; HDMI_TX1_SCL_M2; SPI2_MOSI_M0; HDMI_TX0_HPD_M0; SPI2_CLK_M0; HDMI_TX1_HPD_M0; PWM3_IR_M3; SPI2_CS0_M0; PCIE30X1_1_PERSTN_M2; PDM1_SDI0_M1; SPI2_CS1_M0; PCIE30X4_CLKREQN_M3; PDM1_SDI1_M1; SPI0_MISO_M2; PCIE30X4_WAKEN_M3; PDM1_SDI2_M1; SPI0_MOSI_M2; PCIE30X4_PERSTN_M3; PDM1_SDI3_M1; UART4_RX_M2; SATA0_ACT_LED_M1; SPI0_CLK_M2; PCIE30X1_0_WAKEN_M2; PDM1_CLK1_M1; UART4_TX_M2; SPI0_CS0_M2; PCIE30X1_0_PERSTN_M2; PDM1_CLK0_M1; UART7_RX_M2; SPI0_CS1_M2; PCIE30X1_0_CLKREQN_M2; UART7_TX_M2; HDMI_RX_HPDOUT_M2; SPDIF0_TX_M0; PCIE30X2_WAKEN_M3; MIPI_CAMERA1_CLK_M0; I2C5_SCL_M3; UART1_TX_M1; SATA2_ACT_LED_M1; HDMI_RX_CEC_M2; PWM13_M2; SPDIF1_TX_M0; PCIE30X2_PERSTN_M3; MIPI_CAMERA2_CLK_M0; I2C5_SDA_M3; UART1_RX_M1; HDMI_RX_SCL_M2; PWM14_M2; MIPI_CAMERA3_CLK_M0; I2C8_SCL_M2; UART1_RTSN_M1; HDMI_RX_SDA_M2; PWM15_IR_M3; PCIE30X2_CLKREQN_M3; MIPI_CAMERA4_CLK_M0; I2C8_SDA_M2; UART1_CTSN_M1
part J text: VCCIO5 Domain; Operating Voltage=1.8V/3.3V; PWM10_M0; /; SPI4_MISO_M1; I2C6_SDA_M4; FSPI_D0_M2; I2S3_MCLK; SDIO_D0_M1; GMAC1_TXD2; AUDDSM_LN; SPI4_MOSI_M1; PWM11_IR_M0; I2C6_SCL_M4; FSPI_D1_M2; I2S3_SCLK; SDIO_D1_M1; GMAC1_TXD3; AUDDSM_LP; SPI4_CLK_M1; UART8_TX_M1; FSPI_D2_M2; I2S3_LRCK; SDIO_D2_M1; GMAC1_RXD2; AUDDSM_RN; SPI4_CS0_M1; UART8_RX_M1; FSPI_D3_M2; I2S3_SDO; SDIO_D3_M1; GMAC1_RXD3; AUDDSM_RP; SPI4_CS1_M1; UART8_RTSN_M1; I2S3_SDI; SDIO_CMD_M1; GMAC1_TXCLK; MIPI_CAMERA0_CLK_M1; UART8_CTSN_M1; I2C4_SDA_M0; FSPI_CLK_M2; SDIO_CLK_M1; GMAC1_RXCLK; MIPI_CAMERA1_CLK_M1; I2C4_SCL_M0; ETH1_REFCLKO_25M; PWM8_M0; MIPI_CAMERA2_CLK_M1; GMAC1_RXD0; PWM9_M0; MIPI_CAMERA3_CLK_M1; GMAC1_RXD1; PWM2_M1; MIPI_CAMERA4_CLK_M1; UART2_TX_M2; GMAC1_RXDV_CRS; PWM3_IR_M1; UART2_RX_M2; I2S2_SDI_M1; GMAC1_TXER; UART2_RTSN; I2S2_SDO_M1; GMAC1_TXD0; UART2_CTSN; I2S2_MCLK_M1; GMAC1_TXD1; PWM12_M0; CAN1_RX_M0; UART3_TX_M1; I2S2_SCLK_M1; GMAC1_TXEN; PWM13_M0; CAN1_TX_M0; UART3_RX_M1; I2S2_LRCK_M1; GMAC1_MCLKINOUT; I2C3_SCL_M1; SPI1_MOSI_M1; HDMI_TX1_HPD_M1; GMAC1_PTP_REF_CLK; UART7_TX_M1; I2C3_SDA_M1; SPI1_MISO_M1; GMAC1_PPSTRIG; PCIE30X2_BUTTON_RSTN; UART7_RX_M1; SPI1_CLK_M1; GMAC1_PPSCLK; PWM14_M0; UART7_RTSN_M1; I2C8_SCL_M4; SPI1_CS0_M1; MIPI_TE0; GMAC1_MDC; PWM15_IR_M0; UART7_CTSN_M1; I2C8_SDA_M4; SPI1_CS1_M1; MIPI_TE1; GMAC1_MDIO; CAN2_RX_M0; PCIE30X4_CLKREQN_M2; UART5_TX_M1; FSPI_CS0N_M2; SPI3_CS0_M3; HDMI_TX1_CEC_M2; CIF_D8; CAN2_TX_M0; PCIE30X4_WAKEN_M2; UART5_RX_M1; FSPI_CS1N_M2; SPI3_CS1_M3; HDMI_TX1_SDA_M1; CIF_D9; PCIE30X4_PERSTN_M2; SPI3_MISO_M3; HDMI_TX1_SCL_M1; CIF_D10; PCIE20X1_2_CLKREQN_M0; I2C5_SCL_M0; SPI3_MOSI_M3; HDMI_TX0_SCL_M2; CIF_D11; PWM8_M2; PCIE20X1_2_WAKEN_M0; UART4_RX_M1; I2C5_SDA_M0; SPI3_CLK_M3; HDMI_TX0_SDA_M2; CIF_D12; PWM9_M2; PCIE20X1_2_PERSTN_M0; UART4_TX_M1; SPI0_MISO_M3; HDMI_RX_CEC_M1; CIF_D13; PCIE30X2_CLKREQN_M2; UART9_RTSN_M2; I2C7_SCL_M2; SPI0_MOSI_M3; HDMI_RX_SCL_M1; CIF_D14; PWM10_M2; PCIE30X2_WAKEN_M2; UART9_CTSN_M2; I2C7_SDA_M2; SPI0_CLK_M3; HDMI_RX_SDA_M1; CIF_D15; PCIE30X2_PERSTN_M2; UART9_RX_M2; SPI0_CS0_M3; HDMI_RX_HPDOUT_M1; HDMI_TX0_HPD_M1; MCU_JTAG_TCK_M1; DP1_HPDIN_M0; PWM11_IR_M3; PCIE30X4_BUTTON_RSTN; UART9_TX_M2; SPI0_CS1_M3; MCU_JTAG_TMS_M1
part K text: VCCIO6 Domain; Operating Voltage=1.8V/3.3V; /; SPI0_MISO_M1; UART9_RTSN_M1; I2S1_MCLK_M0; PCIE30X1_1_CLKREQN_M1; BT1120_D0; CIF_D0; SPI0_MOSI_M1; UART9_CTSN_M1; I2S1_SCLK_M0; PCIE30X1_1_WAKEN_M1; BT1120_D1; CIF_D1; SPI0_CLK_M1; I2S1_LRCK_M0; PCIE30X1_1_PERSTN_M1; BT1120_D2; CIF_D2; UART0_TX_M2; PCIE30X1_0_CLKREQN_M1; BT1120_D3; CIF_D3; SPI2_MISO_M1; UART0_RX_M2; I2C3_SCL_M2; PCIE30X1_0_WAKEN_M1; BT1120_D4; CIF_D4; SPI2_MOSI_M1; UART3_TX_M2; I2C3_SDA_M2; I2S1_SDI0_M0; PCIE30X1_0_PERSTN_M1; BT1120_D5; CIF_D5; SPI2_CLK_M1; UART3_RX_M2; I2C5_SCL_M2; I2S1_SDI1_M0; PCIE30X2_CLKREQN_M1; BT1120_D6; CIF_D6; SPI2_CS0_M1; I2C5_SDA_M2; I2S1_SDI2_M0; PCIE30X2_WAKEN_M1; BT1120_D7; CIF_D7; SPI2_CS1_M1; UART8_TX_M0; I2C6_SDA_M3; I2S1_SDI3_M0; PCIE30X2_PERSTN_M1; BT1120_CLKOUT; CIF_CLKIN; SATA2_ACT_LED_M0; SPDIF1_TX_M1; SPI0_CS1_M1; UART8_RX_M0; I2C6_SCL_M3; I2S1_SDO0_M0; PCIE30X1_0_BUTTON_RSTN; MIPI_CAMERA0_CLK_M0; CAN1_RX_M1; PWM14_M1; SPI0_CS0_M1; UART8_RTSN_M0; I2C7_SCL_M3; I2S1_SDO1_M0; PCIE30X1_1_BUTTON_RSTN; BT1120_D8; CIF_HREF; CAN1_TX_M1; PWM15_IR_M1; UART8_CTSN_M0; I2C7_SDA_M3; I2S1_SDO2_M0; PCIE20X1_2_BUTTON_RSTN; BT1120_D9; CIF_VSYNC; SPDIF0_TX_M1; PWM11_IR_M1; DP0_HPDIN_M0; UART9_TX_M1; I2S1_SDO3_M0; PCIE30X4_CLKREQN_M1; BT1120_D10; CIF_CLKOUT; SATA1_ACT_LED_M0; PWM12_M1; SPI3_MISO_M1; UART9_RX_M1; HDMI_RX_CEC_M0; PCIE30X4_WAKEN_M1; BT1120_D11; SATA0_ACT_LED_M0; PWM13_M1; SPI3_MOSI_M1; I2C5_SCL_M1; HDMI_RX_HPDOUT_M0; PCIE30X4_PERSTN_M1; BT1120_D12; SPI3_CLK_M1; I2C5_SDA_M1; HDMI_TX0_SCL_M0; PCIE20X1_2_CLKREQN_M1; BT1120_D13; SPI3_CS0_M1; I2C8_SCL_M3; HDMI_TX0_SDA_M0; PCIE20X1_2_WAKEN_M1; BT1120_D14; SPDIF1_TX_M2; PWM6_M1; SPI3_CS1_M1; I2C8_SDA_M3; HDMI_TX0_CEC_M0; PCIE20X1_2_PERSTN_M1; BT1120_D15
part L text: USB2.0 of TYPEC0 / (OTG/HOST/DEVICE); HS/FS/LS; Download Port; 40K; USB2.0 of TYPEC1 / (OTG/HOST/DEVICE); USB2.0 HOST0; USB2.0 HOST1; USB2.0 POWER
part M text: USB3.0 OTG/DP1.4 Alt / of TYPEC0; USB:U3/Gen1----Controller0 / DP:RBR/HBR/HBR2/HBR3; USB3.0 OTG/DP1.4 Alt / of TYPEC1; USB:U3/Gen1----Controller1 / DP:RBR/HBR/HBR2/HBR3
part N text: PCIE20/SATA30 Mux0; input or output; PCIe20x1_2 / 1Lane(RC)--4(1L2); MUX; SATA30 HOST / Controller0; PCIE20:Gen1/Gen2 / SATA30:Gen1/Gen2/Gen3; PCIE20/SATA30 Mux1; PCIe30x1_0 / 1Lane(RC)--2(1L0); SATA30 HOST / Controller1; PCIE20/SATA30/USB30 HOST Mux2; PCIe30x1_1 / 1Lane(RC)--3(1L1); SATA30 HOST / Controller2; USB30 HOST / Controller2; PCIE20:Gen1/Gen2 / USB 30:Gen1 / SATA30:Gen1/Gen2/Gen3
part O text: PCIE30 PORT0 /; PCIE30X4; input; Lane0 /; PCIe30X4 / 4Lane(DM)--0(4L); Lane1 /; PCIe30x1_0 / 1Lane(RC)--2(1L0); PCIE20/SATA30 / MUX1; PCIE30: / PCIe1.1(2.5Gbps) / PCIe2.1(5Gbps) / PCIe3.0(8Gbps) /; PCIE30 PORT1 /; Lane0; PCIe30x2 / 2Lane(RC)--1(2L); PCIe30x1_1 / 1Lane(RC)--3(1L1); PCIE20/SATA30/USB30 / MUX2
part P text: MIPI DPHY CSI_RX Port0; MIPI V1.2/2.5Gbps; MIPI DPHY CSI_RX Port1
part Q text: MIPI D/C-PHY DSI_TX Port0; D-PHY:V2.0  4.5Gbps/Lane / C-PHY:V1.1  5.7Gbps/Trio; MIPI D/C-PHY CSI_RX Port0; MIPI D/C-PHY POWER
part R text: MIPI D/C-PHY DSI_TX Port1; D-PHY:V2.0  4.5Gbps/Lane / C-PHY:V1.1  5.7Gbps/Trio; MIPI D/C-PHY CSI_RX Port1; MIPI D/C-PHY POWER
part S text: HDMI TX/eDP MUX Port0; HDMI:V2.1   12Gbps / eDP: V1.3   5.4Gbps; HDMI TX/eDP MUX Port1
part T text: HDMI RX; HDMI:V2.0
part U text: SARADC; Recovery/; 12-bit 1MS/s; OTP; TSADC
part V text: GPU; CPU_BIG0; LOGIC; CPU_BIG1; VDENC; LIT(LIT+DSU+L3); NPU